# Altium integrated library DDSintLib.IntLib: 161 symbols (part 1 of 2)
Pins are listed as number, name and electrical type; pins without a type are passive.

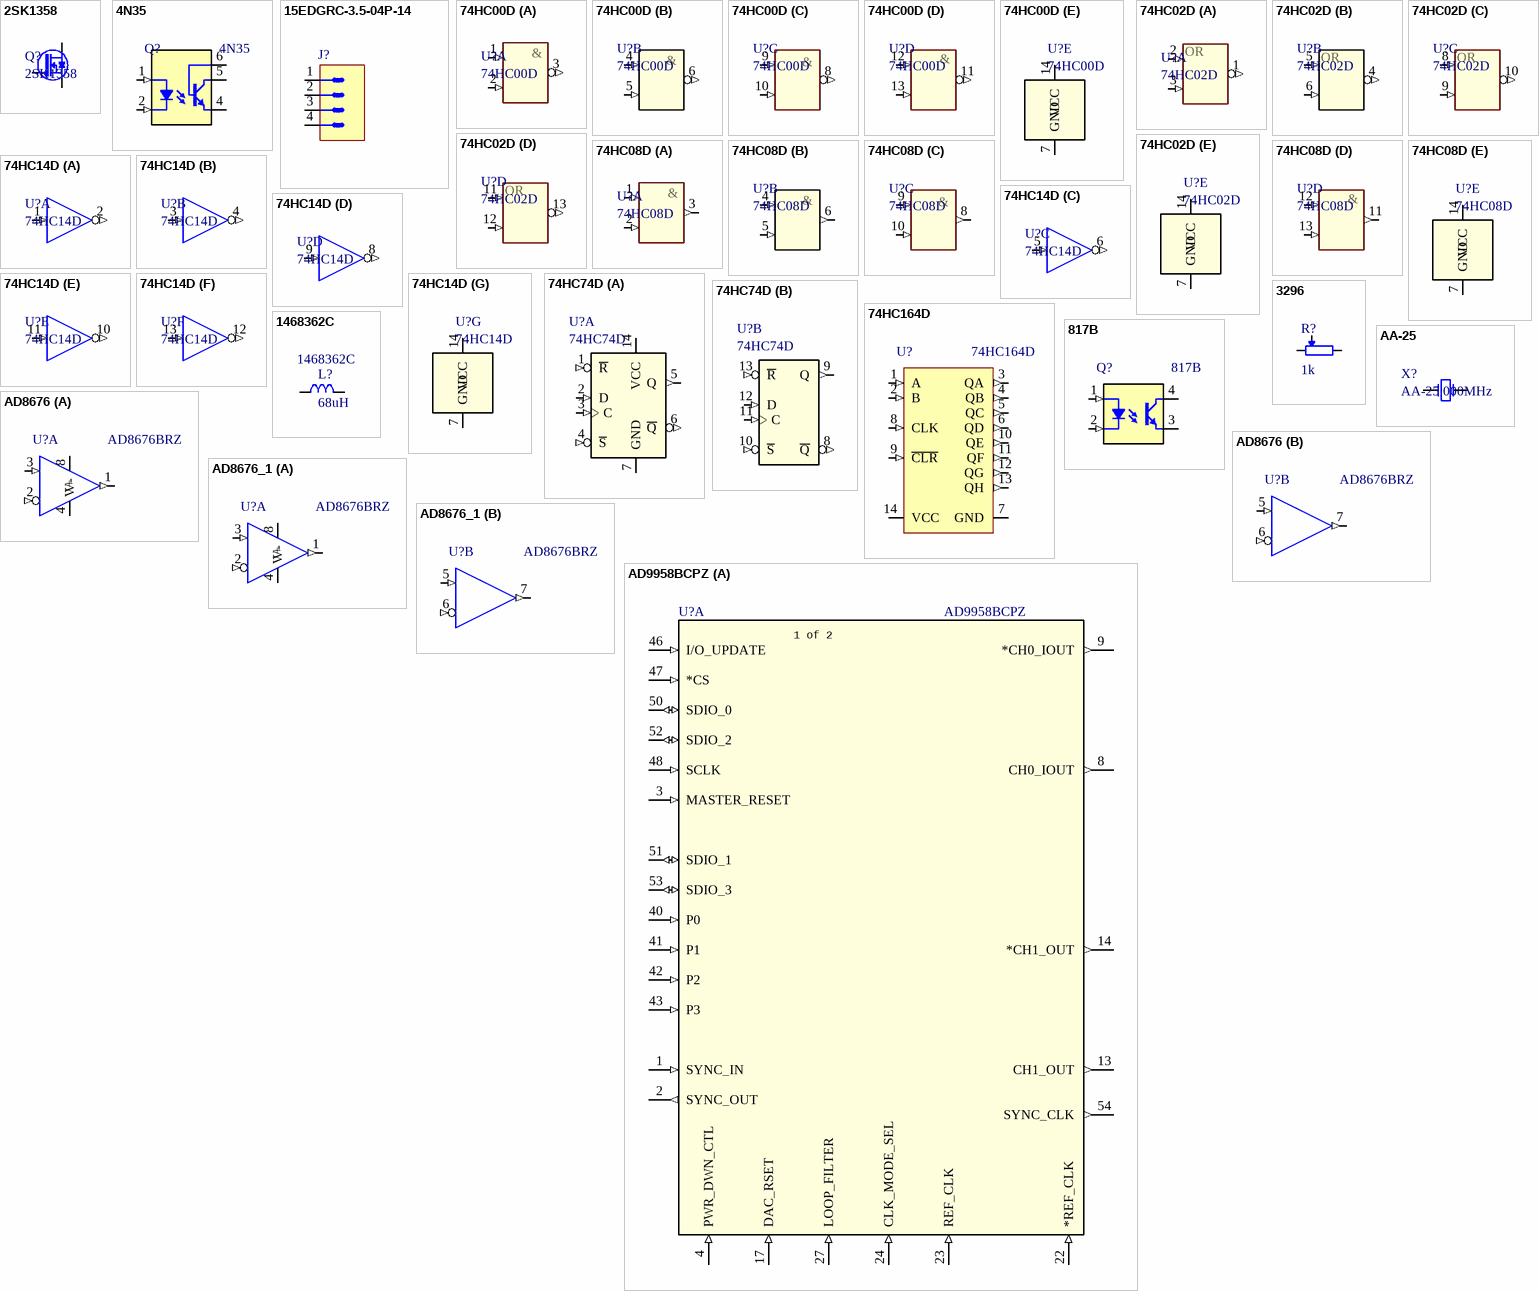
[diagram p0: symbols 2SK1358 to AD9958BCPZ]

## 2SK1358
designator Q?
NMOS; Vendor: Inchange; Pkg: TO247; SMD Solders: 0; Solder Option: RM; THD Solders: 3; Voltage: 900V; Price: 500; Device: 2SK1358; Name to order: 2SK1358
footprint TO-247-v (TO-247 3-Terminal - Vertical Mount)
pins: 1 G, 2 D, 3 S

## 4N35
designator Q?
Optotransistor; Pkg: DIP6; SMD Solders: 0; Solder Option: RM; THD Solders: 6; Vendor: Vishay; Voltage: 70V; Device: 4N35; Price: 75; Name to order: 4N35; Current: 0
footprint DIP6-300 (DIP 6 Leads, Row Spacing 7.62 mm; Pitch 2.54 mm)
pins: 1 A (in), 2 C (in), 4 E (oe), 5 C (oc), 6 C (oc)
1 alternate drawing of the same symbol

## 15EDGRC-3.5-04P-14
designator J?
Вилка  WF4; Vendor: Degson; SMD Solders: 0; Solder Option: RM; THD Solders: 4; Price: 50; Device: 15EDGRC-3.5-04P-14; Name to order: 15EDGRC-3.5-04P-14
footprint TE_284512-4
pins: 1 (io), 2 (io), 3 (io), 4 (io)

## 74HC00D
designator U?
4 лог. элемента 2И-НЕ; Vendor: NXP; Pkg: SOIC14; SMD Solders: 14; Solder Option: RM; Voltage: 2.. 6V; Price: 50; Device: 74HC00D; Name to order: 74HC00D
footprint SOIC127P600X175-14N (SOIC 14, Pitch 1.27mm - Body 4x8.75mm, IPC Medium Density)
part A pins: 1 IN (in), 2 IN (in), 3 OUT (out)
part B pins: 4 IN (in), 5 IN (in), 6 OUT (out)
part C pins: 8 OUT (out), 9 IN (in), 10 IN (in)
part D pins: 11 OUT (out), 12 IN (in), 13 IN (in)
part E pins: 7 GND (power) "Ground", 14 VCC (power) "Data"
part A text: &
part B text: &
part C text: &
part D text: &

## 74HC02D
designator U?
4 лог. элемента 2ИЛИ-НЕ; Vendor: NXP; Pkg: SOIC14; SMD Solders: 14; Solder Option: RM; Voltage: 2.. 6V; Price: 50; Device: 74HC02D; Name to order: 74HC02D
footprint SOIC127P600X175-14N (SOIC 14, Pitch 1.27mm - Body 4x8.75mm, IPC Medium Density)
part A pins: 1 OUT (out), 2 IN (in), 3 IN (in)
part B pins: 4 OUT (out), 5 IN (in), 6 IN (in)
part C pins: 8 IN (in), 9 IN (in), 10 OUT (out)
part D pins: 11 IN (in), 12 IN (in), 13 OUT (out)
part E pins: 7 GND (power) "Ground", 14 VCC (power) "Data"
part A text: OR
part B text: OR
part C text: OR
part D text: OR

## 74HC08D
designator U?
4 лог. элемента 2И; Vendor: NXP; Pkg: SOIC14; SMD Solders: 14; Solder Option: RM; Current: 2uA; Voltage: 2.. 6V; Price: 50; Device: 74HC08D; Name to order: 74HC08D
footprint SOIC127P600X175-14N (SOIC 14, Pitch 1.27mm - Body 4x8.75mm, IPC Medium Density)
part A pins: 1 IN (in), 2 IN (in), 3 OUT (out)
part B pins: 4 IN (in), 5 IN (in), 6 OUT (out)
part C pins: 8 OUT (out), 9 IN (in), 10 IN (in)
part D pins: 11 OUT (out), 12 IN (in), 13 IN (in)
part E pins: 7 GND (power) "Ground", 14 VCC (power) "Data"
part A text: &
part B text: &
part C text: &
part D text: &

## 74HC14D
designator U?
6 триггеров Шмита с инверсией.; Vendor: NXP; Pkg: SOIC14; SMD Solders: 14; Solder Option: RM; Voltage: 2.. 6V; Price: 50; Device: 74HC14D; Name to order: 74HC14D
footprint SOIC127P600X175-14N (SOIC 14, Pitch 1.27mm - Body 4x8.75mm, IPC Medium Density)
part A pins: 1 IN (in), 2 OUT (out)
part B pins: 3 IN (in), 4 OUT (out)
part C pins: 5 IN (in), 6 OUT (out)
part D pins: 8 OUT (out), 9 IN (in)
part E pins: 10 OUT (out), 11 IN (in)
part F pins: 12 OUT (out), 13 IN (in)
part G pins: 7 GND (power) "Ground", 14 VCC (power) "Data"

## 74HC74D
designator U?
2 D триггера с RS  вхлдами; Vendor: NXP; Pkg: SOIC14; SMD Solders: 14; Solder Option: RM; Voltage: 2.. 6V; Price: 50; Device: 74HC74D; Name to order: 74HC74D
footprint SOIC127P600X175-14N (SOIC 14, Pitch 1.27mm - Body 4x8.75mm, IPC Medium Density)
part A pins: 1 ~{R} (in) "Reset", 2 D (in) "Data", 3 C (in) "Clock", 4 ~{S} (in) "Set", 5 Q (out), 6 ~{Q} (out) "Q", 7 GND (power) "Ground", 14 VCC (power) "Data"
part B pins: 8 ~{Q} (out) "Q", 9 Q (out), 10 ~{S} (in) "Set", 11 C (in) "Clock", 12 D (in) "Data", 13 ~{R} (in) "Reset"

## 74HC164D
designator U?
Сдвиговый регистр. Посл. вх. 8 разр. выход.; Pkg: SOIC14; SMD Solders: 14; Solder Option: RM; THD Solders: 0; Vendor: NXP; Voltage: 2V0.. 6V0; Device: 74HC164D; Price: 30; Name to order: 74HC164D
footprint SOIC127P600X175-14N (SOIC 14, Pitch 1.27mm - Body 4x8.75mm, IPC Medium Density)
pins: 1 A (in), 2 B (in), 3 QA (out), 4 QB (out), 5 QC (out), 6 QD (out), 7 GND (power), 8 CLK (in), 9 ~{CLR} (in), 10 QE (out), 11 QF (out), 12 QG (out), 13 QH (out), 14 VCC (power)

## 817B
designator Q?
Optotransistor; Pkg: DIP4; SMD Solders: 0; Solder Option: RM; THD Solders: 4; Vendor: UMW; Voltage: 35V; Device: 817B; Price: 10; Name to order: 817B; Current: 0
footprint DIP4-300 (DIP 4 Leads, Row Spacing 7.62 mm; Pitch 2.54 mm)
pins: 1 A (in), 2 C (in), 3 E (oe), 4 C (oc)

## 3296
designator R?, comment 1k
Trimmer Potentiometer; Vendor: Bourns; SMD Solders: 0; Solder Option: RM; TC: 100ppm/C; Pkg: Bourns3296; Pwr: 250mW; Device: 3296Y; THD Solders: 3; Price: 200; Value: 1k
footprint TRIM_BOURNS_3296Y (Trimming Potentiometer BOURNS 3296Y Series)
pins: 1, 2 W, 3

## 1468362С
designator L?, comment 68uH  Device: 1468362С
THD inductor; Vendor: muRata; SMD Solders: 0; Solder Option: RM; Tolerance: 20%; THD Solders: 2; Price: 600; Value: 68uH
footprint muR1468362C (Capacitor, Radial, Pin spacing 5.0mm - Body Diameter 10.0mm X Body Height 12.5mm)
pins: 1, 2

## AA-25
designator X?, comment AA-25.000MHz
Резонатор кварцевый; Vendor: TXS; Pkg: 5x3,2; SMD Solders: 2; Solder Option: RM; Device: AA-; THD Solders: 0; Name to order: AA-25.000MALE-T; Value: 25.000MHz; Price: 300; Current: 0
footprint XTAL_AA (Resonator 5x3.mm 2pin)
pins: 1 OSC1, 2 OSC2

## AD8676
designator U?, comment AD8676BRZ
Dual Rail-to-Rail Output Op Amp; Pkg: SOIC8_EP; SMD Solders: 8; Solder Option: RM; TC: 600nV/C; THD Solders: 0; Vendor: Analog Devices Inc; Voltage: +-5 to +-18V; Device: AD8676BRZ; Price: 3000; Name to order: AD8676BRZ; Current: 8
footprint SOIC127P600X175-8N (SOIC 8, Pitch 1.27mm - Body 4x5mm, IPC Medium Density)
part A pins: 1 OUT (out), 2 IN- (in), 3 IN+ (in), 4 V- (power), 8 V+ (power)
part B pins: 5 IN+ (in), 6 IN- (in), 7 OUT (out)

## AD8676_1
designator U?, comment AD8676BRZ
Dual Rail-to-Rail Output Op Amp; Pkg: SOIC8_EP; SMD Solders: 8; Solder Option: RM; TC: 600nV/C; THD Solders: 0; Vendor: Analog Devices Inc; Voltage: +-5 to +-18V; Device: AD8676BRZ; Price: 3000; Name to order: AD8676BRZ; Current: 8
footprint SOIC127P600X175-8N (SOIC 8, Pitch 1.27mm - Body 4x5mm, IPC Medium Density)
part A pins: 1 OUT (out), 2 IN- (in), 3 IN+ (in), 4 V- (power), 8 V+ (power)
part B pins: 5 IN+ (in), 6 IN- (in), 7 OUT (out)

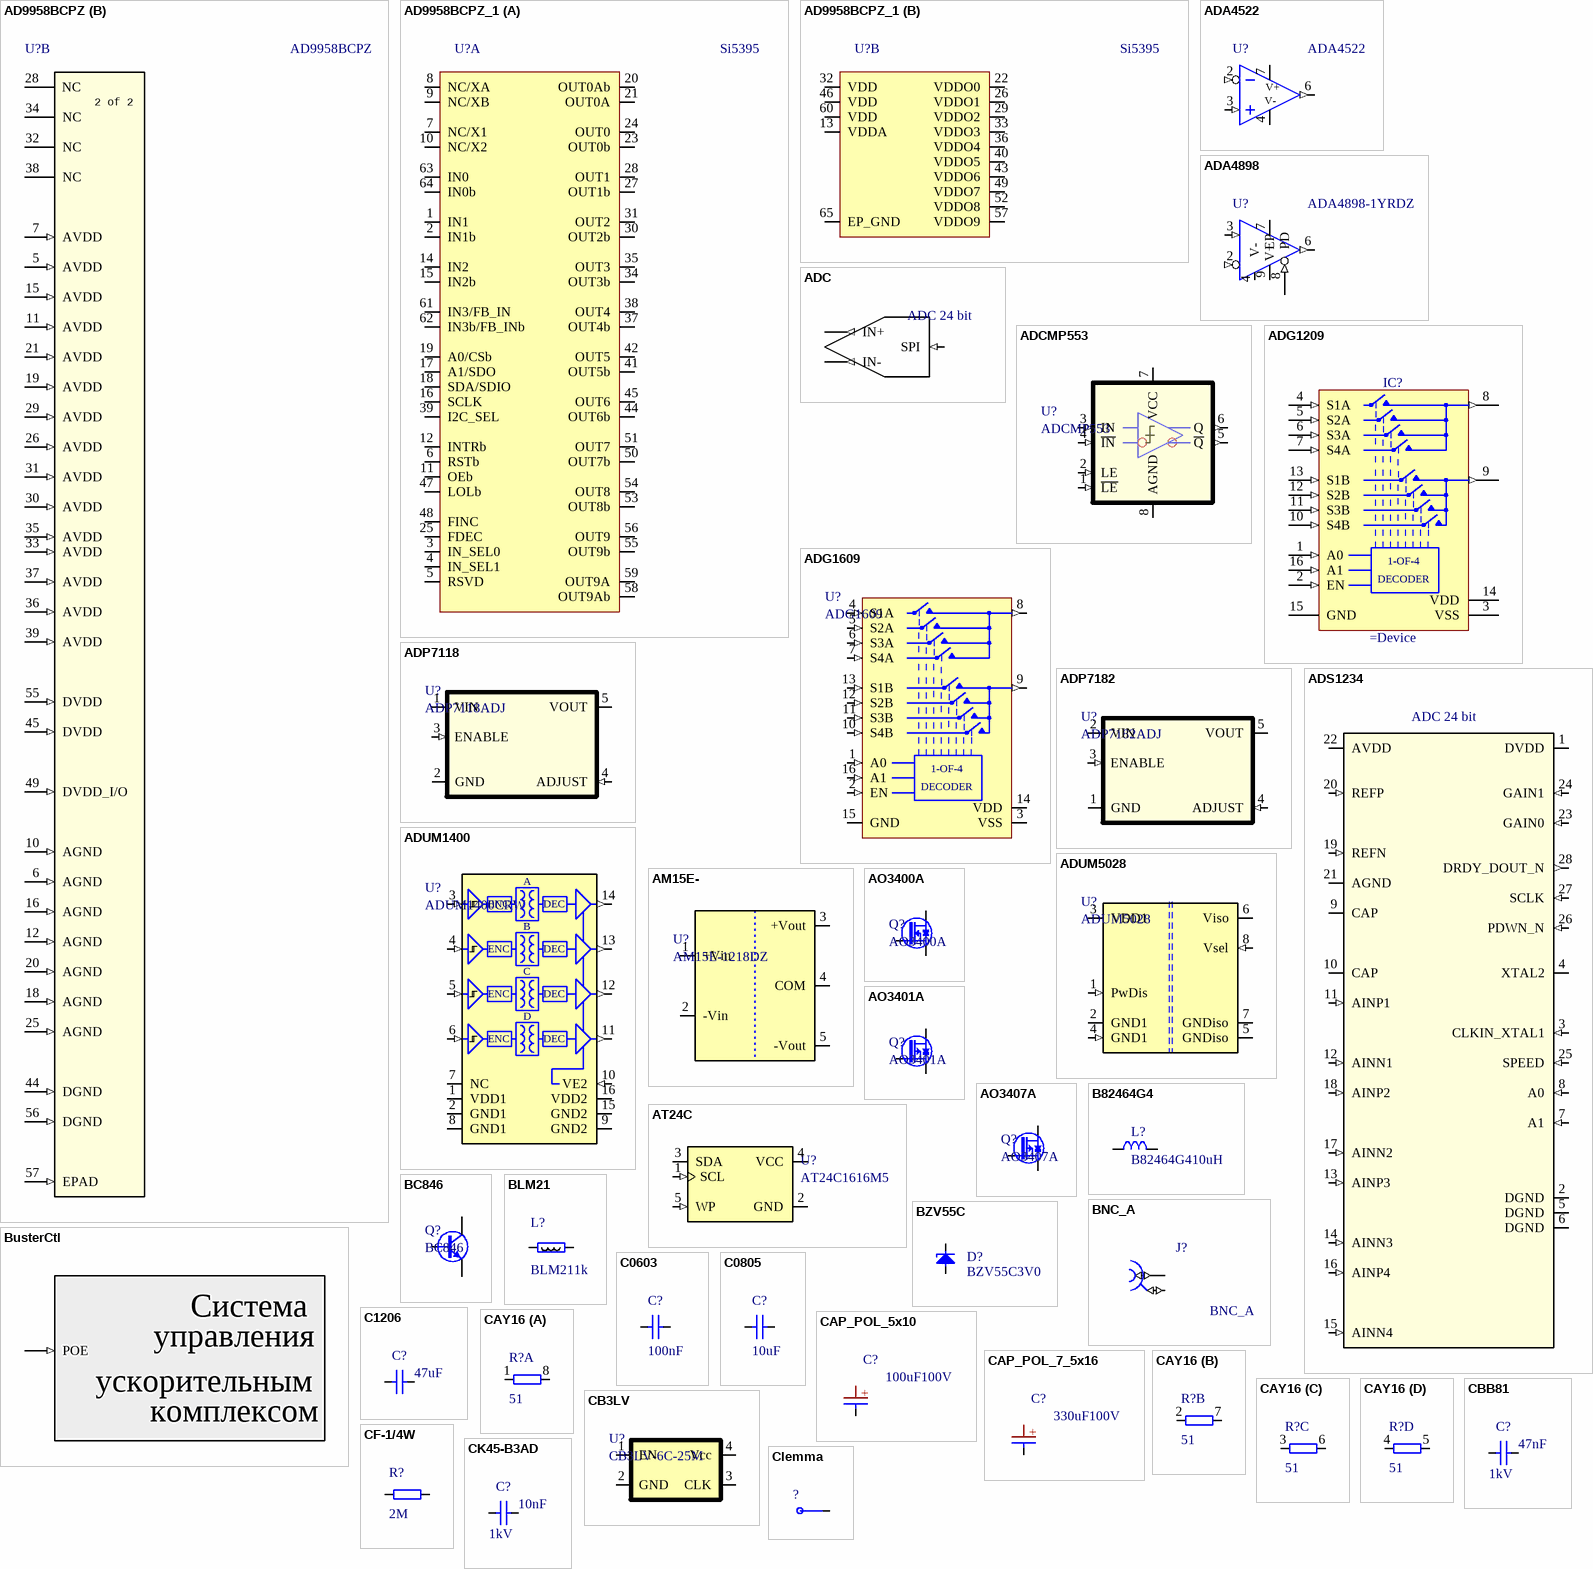
[diagram p1: symbols AD9958BCPZ to Clemma]

## AD9958BCPZ
designator U?
2х канальный   500 MSpS  DDS; Voltage: Core:1V8 IO:3V3; Vendor: Analog Devices Inc; SMD Solders: 57; Solder Option: i; TC: 100ppm/C; Pkg: LFCSP_VQ57; 1V8A_Current: 110; 1V8D_Current: 80; 3V3io_Current: 30; Price: 2500; Device: AD9958BCPZ
footprint CP_56_1_ADI-M
part A pins: 1 SYNC_IN (in), 2 SYNC_OUT (out), 3 MASTER_RESET (in), 4 PWR_DWN_CTL (in), 8 CH0_IOUT (out), 9 *CH0_IOUT (out), 13 CH1_OUT (out), 14 *CH1_OUT (out), 17 DAC_RSET (in), 22 *REF_CLK (in), 23 REF_CLK (in), 24 CLK_MODE_SEL (in), 27 LOOP_FILTER (in), 40 P0 (in), 41 P1 (in), 42 P2 (in), 43 P3 (in), 46 I/O_UPDATE (in), 47 *CS (in), 48 SCLK (in), 50 SDIO_0 (io), 51 SDIO_1 (io), 52 SDIO_2 (io), 53 SDIO_3 (io), 54 SYNC_CLK (out)
part B pins: 5 AVDD (in), 6 AGND (in), 7 AVDD (in), 10 AGND (in), 11 AVDD (in), 12 AGND (in), 15 AVDD (in), 16 AGND (in), 18 AGND (in), 19 AVDD (in), 20 AGND (in), 21 AVDD (in), 25 AGND (in), 26 AVDD (in), 28 NC, 29 AVDD (in), 30 AVDD (in), 31 AVDD (in), 32 NC, 33 AVDD (in), 34 NC, 35 AVDD (in), 36 AVDD (in), 37 AVDD (in), 38 NC, 39 AVDD (in), 44 DGND (in), 45 DVDD (in), 49 DVDD_I/O (in), 55 DVDD (in), 56 DGND (in), 57 EPAD (in) "Thermopad connect to AGND"
part A text: 1 of 2
part B text: 2 of 2

## AD9958BCPZ_1
designator U?, comment Si5395
Jitter Attenuator/Clock Multiplier with Ultra-Low Jitter; Voltage: 1V8 3V3; Vendor: SiLabs; SMD Solders: 57; Solder Option: i; TC: 100ppm/C; Pkg: LFCSP_VQ57; 1V8A_Current: 110; 1V8D_Current: 80; 3V3io_Current: 30; Price: 2500; Device: Si5395
footprint QFN50P900X900X100-65N-S530
part A pins: 1 IN1, 2 IN1b, 3 IN_SEL0, 4 IN_SEL1, 5 RSVD, 6 RSTb, 7 NC/X1, 8 NC/XA, 9 NC/XB, 10 NC/X2, 11 OEb, 12 INTRb, 14 IN2, 15 IN2b, 16 SCLK, 17 A1/SDO, 18 SDA/SDIO, 19 A0/CSb, 20 OUT0Ab, 21 OUT0A, 23 OUT0b, 24 OUT0, 25 FDEC, 27 OUT1b, 28 OUT1, 30 OUT2b, 31 OUT2, 34 OUT3b, 35 OUT3, 37 OUT4b, 38 OUT4, 39 I2C_SEL, 41 OUT5b, 42 OUT5, 44 OUT6b, 45 OUT6, 47 LOLb, 48 FINC, 50 OUT7b, 51 OUT7, 53 OUT8b, 54 OUT8, 55 OUT9b, 56 OUT9, 58 OUT9Ab, 59 OUT9A, 61 IN3/FB_IN, 62 IN3b/FB_INb, 63 IN0, 64 IN0b
part B pins: 13 VDDA, 22 VDDO0, 26 VDDO1, 29 VDDO2, 32 VDD, 33 VDDO3, 36 VDDO4, 40 VDDO5, 43 VDDO6, 46 VDD, 49 VDDO7, 52 VDDO8, 57 VDDO9, 60 VDD, 65 EP_GND

## ADA4522
designator U?
Op amp; Pkg: MASOP8-65; SMD Solders: 8; Solder Option: RM; TC: 1uV/C; Vendor: Analog Devices Inc; Voltage: +-5 to +-27.5V; Name to order: ADA4522-1ARMZ; Current: 1; Device: ADA4522; Price: 600
footprint SOP65P488X110-8N (SOP, 8-Leads, Body 3x3mm (max), Pitch 0.65mm, IPC Medium Density)
pins: 2 IN- (in), 3 IN+ (in), 4 V- (power), 6 OUT (out), 7 V+ (power)

## ADA4898
designator U?, comment ADA4898-1YRDZ
Op amp; Pkg: SOIC8_EP; SMD Solders: 9; Solder Option: i; TC: 1uV/C; Vendor: Analog Devices Inc; Voltage: +-5 to +-16V; Device: ADA4898-1YRDZ; Price: 1000; Name to order: ADA4898-1YRDZ; Current: 9
footprint SOIC8_TP (SOIC8_1.27pitch + expPad)
pins: 2 IN- (in), 3 IN+ (in), 4   V- (power), 6 OUT (out), 7 V+, 8 PD (in) "To PowDown connect to -VS", 9   EP (power) "Connect to -VS of left floated"

## ADC
designator U?, comment ADC 24 bit
АЦП; Device: AD8676BRZ; Pkg: SOIC8_EP; SMD Solders: 8; Solder Option: RM; TC: 600nV/C; THD Solders: 0; Vendor: Analog Devices Inc; Voltage: +-5 to +-18V; Price: 3000; Name to order: AD8676BRZ; Current: 8
footprint SOIC127P600X175-8N (SOIC 8, Pitch 1.27mm - Body 4x5mm, IPC Medium Density)
pins: 1 IN+ (out), 2 IN- (out), 3 SPI (in)

## ADCMP553
designator U?
Comparator PECL/LVPECL; Vendor: Analog Devices; Pkg: MSOP8-65; SMD Solders: 8; Solder Option: RM; THD Solders: 0; Name to order: ADCMP553BRMZ; Current: 13; Voltage: 3.2.. 5.2; Price: 1000; Device: ADCMP553
footprint MSOP8-65 (SOP, 8-Leads, Body 3x3mm (max), Pitch 0.65mm, IPC Medium Density)
pins: 1 ~{LE} (in), 2 LE (in), 3 IN (in), 4 ~{IN} (in), 5 ~{Q} (out), 6 Q (out), 7 VCC (power), 8 AGND (power)
1 alternate drawing of the same symbol

## ADG1209
designator IC?
Low Capacitance, Dual 4-Channel, ±15 V/+12 V iCMOS Multiplexer
pins: 1 A0 (in), 2 EN (in), 3 VSS (power), 4 S1A (in), 5 S2A (in), 6 S3A (in), 7 S4A (in), 8 DA (out), 9 DB (out), 10 S4B (in), 11 S3B (in), 12 S2B (in), 13 S1B (in), 14 VDD (power), 15 GND (power), 16 A1 (in)
text: 1-OF-4; DECODER

## ADG1609
designator U?
Мультиплексор аналоговый дифференциальный 4 канала; Vendor: Analog Devoces; Pkg: TSSOP65-16; SMD Solders: 16; Solder Option: RM; THD Solders: 0; Name to order: ADG1608BRUZ; Price: 700; Device: ADG1609; Current: 0
footprint TSSOP-16
pins: 1 A0 (in), 2 EN (in), 3 VSS (power), 4 S1A (in), 5 S2A (in), 6 S3A (in), 7 S4A (in), 8 DA (out), 9 DB (out), 10 S4B (in), 11 S3B (in), 12 S2B (in), 13 S1B (in), 14 VDD (power), 15 GND (power), 16 A1 (in)
text: 1-OF-4; DECODER

## ADP7118
designator U?, comment ADP7118ADJ
Positive LDO Linear stabilizer; Vendor: Analog Devoces; Value: ADJ; Pkg: SOT23-5; SMD Solders: 5; Solder Option: RM; Price: 100; Device: ADP7118
footprint SOT23-5 (SOT, 0.95mm Pitch; 5 Pin,1.55mm W X 2.90mm L X 1.45mm H body, IPC Medium Density)
pins: 1 VIN (power) "Vin 2.1,,16V", 2 GND (power) "Groung", 3 ENABLE (in) "Enable  activ H", 4 ADJUST (in), 5 VOUT (power) "Vout"

## ADP7182
designator U?, comment ADP7182ADJ
Negative LDO Linear stabilizer; Vendor: Analog Devoces; Value: ADJ; Pkg: SOT23-5; SMD Solders: 5; Solder Option: RM; Name to order: ADP7182AUJZ-R7; Vref: 1V22; Price: 100; Device: ADP7182
footprint SOT23-5 (SOT, 0.95mm Pitch; 5 Pin,1.55mm W X 2.90mm L X 1.45mm H body, IPC Medium Density)
pins: 1 GND (power) "Groung", 2 VIN (power) "Vin 2.1,,16V", 3 ENABLE (in) "Enable  activ H", 4 ADJUST (in), 5 VOUT (power) "Vout"

## ADS1234
designator U?, comment ADC 24 bit
АЦП; Device: ADS1234; Pkg: SOIC8_EP; SMD Solders: 28; Solder Option: RM; TC: 10-300nV/C; THD Solders: 0; Vendor: Texas  Instruments; Voltage: 2V7 to 5V3; Name to order: ADS1234IPWR; Current: 3; Price: 1500
footprint SOP65P780X200-28N (SOP, 0.65mm Pitch; 28 Pin, 5.30mm W X 10.20mm L X 2.00mm H Body, IPC Medium Density)
pins: 1 DVDD (power), 2 DGND (power), 3 CLKIN_XTAL1 (in), 4 XTAL2, 5 DGND (power), 6 DGND (power), 7 A1 (in), 8 A0 (in), 9 CAP, 10 CAP, 11 AINP1 (in), 12 AINN1 (in), 13 AINP3 (in), 14 AINN3 (in), 15 AINN4 (in), 16 AINP4 (in), 17 AINN2 (in), 18 AINP2 (in), 19 REFN (in), 20 REFP (in), 21 AGND (power), 22 AVDD (power), 23 GAIN0 (in), 24 GAIN1 (in), 25 SPEED (in), 26 PDWN_N (in), 27 SCLK (in), 28 DRDY_DOUT_N (out)

## ADUM1400
designator U?, comment ADUM1400CRW
Isolateted DC DC 5V->5V or 3V3 60mA; Vendor: Analog Devoces; Value: CRW; Pkg: SOIC16W; SMD Solders: 16; Solder Option: RM; THD Solders: 0; Current: 200; Price: 960; Device: ADUM1400; Name to order: ADuM1400CRW
footprint SOIC127P1030X265-16N (SOIC 16, Pitch 1.27mm - Body 7.5x10.3mm, IPC Medium Density)
pins: 1 VDD1 (power), 2 GND1 (power), 3 VIA (in), 4 VIB (in), 5 VIC (in), 6 VID (in), 7 NC, 8 GND1 (power), 9 GND2 (power), 10 VE2 (in), 11 VOD (out), 12 VOC (out), 13 VOB (out), 14 VOA (out), 15 GND2 (power), 16 VDD2 (power)
text: A; ENC; DEC; B; C; D

## ADUM5028
designator U?
Isolateted DC DC 5V->5V or 3V3 60mA; Vendor: Analog Devoces; Pkg: SOIC8; SMD Solders: 8; Solder Option: RM; Name to order: ADuM5028-5BRIZ; Current: 200; Price: 2500; Device: ADUM5028
footprint SOIC127P600X175-8N (SOIC 8, Pitch 1.27mm - Body 4x5mm, IPC Medium Density)
pins: 1 PwDis (in), 2 GND1 (power), 3 VDD1 (power), 4 GND1 (in), 5 GNDiso (power), 6 Viso (power), 7 GNDiso (power), 8 Vsel (in)

## AM15E-
designator U?, comment AM15E-1218DZ
DC-DC+&-Halvoisolated out; Vendor: Aimtec; Value: 1218DZ; Pkg: DCDC_5; SMD Solders: 0; Solder Option: RM; Device: AM15E-; THD Solders: 5; Name to order: AM15-1218DZ; Price: 2000
footprint DCDC_Aimtec_Dual (AEE 15W Series , Dual Output DCDC Converter, Body 50.8x25.4mm, Height 11.3mm)
pins: 1 +Vin (power), 2 -Vin (power), 3 +Vout (power), 4 COM (power), 5 -Vout (power)

## AO3400A
designator Q?
NMOS; Vendor: UMW; Pkg: SOT23; SMD Solders: 3; Solder Option: RM; Voltage: 30V; Price: 10; Device: AO3400A; Name to order: AO3400A
footprint SOT95P229X119-3N (SOT23 3-Leads, 0.95mm pitch; 3 pin, 1.296mm W X 2.858mm L X 1.194mm H body, IPC Medium Density)
pins: 1 G, 2 S, 3 D

## AO3401A
designator Q?
PMOS; Vendor: UMW; Pkg: SOT23; SMD Solders: 3; Solder Option: RM; THD Solders: 0; Voltage: -30V; Price: 10; Device: AO3401A; Name to order: AO3401A
footprint SOT95P229X119-3N (SOT23 3-Leads, 0.95mm pitch; 3 pin, 1.296mm W X 2.858mm L X 1.194mm H body, IPC Medium Density)
pins: 1 G, 2 S, 3 D

## AO3407A
designator Q?
PMOS; Vendor: UMW; Pkg: SOT23; SMD Solders: 3; Solder Option: RM; THD Solders: 0; Voltage: -30V; Price: 10; Device: AO3407A; Name to order: AO3407A
footprint SOT95P229X119-3N (SOT23 3-Leads, 0.95mm pitch; 3 pin, 1.296mm W X 2.858mm L X 1.194mm H body, IPC Medium Density)
pins: 1 G, 2 S, 3 D

## AT24C
designator U?, comment AT24C1616M5
Isolateted DC DC 5V->5V or 3V3 60mA; Vendor: HGSemi; Value: 16M5; Pkg: SOT23-5; SMD Solders: 5; Solder Option: RM; THD Solders: 0; Name to order: AT24C16M5/TR; Current: 2uA/2mA; Price: 20; Device: AT24C16
footprint SOT23-5 (SOT, 0.95mm Pitch; 5 Pin,1.55mm W X 2.90mm L X 1.45mm H body, IPC Medium Density)
pins: 1 SCL (in), 2 GND (power), 3 SDA (io), 4 VCC (power), 5 WP (in)

## B82464G4
designator L?, comment B82464G410uH
SMD Дроссель; Vendor: Epcos; Value: 10uH; Voltage: 2; Solder Option: RM; Tolerance: 20%; Pkg: SMD10.4x10.4mm; THD Solders: 0; Name to order: B82464G4103M; Current: 3A5; Price: 400; SMD Solders: 2; Device: B82464G4
footprint IND_COILCRAFT_MSS1038 (SMD Inductor  Body Width 10mm Body Lenght 10.2mm Height 4mm)
pins: 1, 2

## BC846
designator Q?
NPN транзистор; Vendor: NXP; Pkg: SOT23; SMD Solders: 3; Solder Option: RM; Voltage: 65V; Price: 10; Device: BC846; Name to order: BC846
footprint SOT95P229X119-3N (SOT23 3-Leads, 0.95mm pitch; 3 pin, 1.296mm W X 2.858mm L X 1.194mm H body, IPC Medium Density)
pins: 1 B, 2 E, 3 C

## BLM21
designator L?, comment BLM211k
SMD Ferrite bead 0805; Vendor: Vishay; Value: 1k; Pkg: SMD0805; SMD Solders: 2; Solder Option: RM; Device: BLM21; Price: 10
footprint RESC2012X50N (Chip Resistor, EIA 0805, Metric 2012, Body 2.0x1.25mm, IPC Medium Density)
pins: 1, 2

## BNC_A
designator J?
BNC розетка; Vendor: TYCO; SMD Solders: 0; Solder Option: RM; Price: 500; Device: BNC_A
footprint TYCO_1-1337542-0 (50 Ohms  BNC Elbow PCB Socket With Mounting Posts)
pins: 1 (io), 2 (io)

## BusterCtl
designator U?, comment Eghfdktybt  (value not drawn)
Система управления измерительным комплексом
pins: 3 POE (in)
text: Система; управления; ускорительным; комплексом

## BZV55C
designator D?, comment BZV55C3V0
Чип cтабилитрон; Vendor: LGE; Value: 3V0; Voltage: 3V; SMD Solders: 2; Solder Option: RM; Pkg: SOD80; Device: BZV55C; Current: 5; Price: 5; Name to order: BZV55C3V0
footprint DIOMELF3516N (SOD80, Diode, MELF; 3.50mm L X 1.65mm Dia, IPC Medium Density)
pins: 1 C, 2 A

## C0603
designator C?, comment 100nF
Чип конденсатор 0603; Voltage: 50V; Vendor: Vishay; DielectricType: X5R; SMD Solders: 2; Solder Option: RM; Tolerance: 20%; Pkg: SMD0603; Device: Cap603; Value: 100nF; Price: 2
footprint CAPC1608X87N (Chip Capacitor, Body 1.6x0.8mm IPC Medium Density)
pins: 1, 2

## C0805
designator C?, comment 10uF
Чип конденсатор 0805; Voltage: 25V; Vendor: Vishay; DielectricType: X5R; SMD Solders: 2; Solder Option: RM; Tolerance: 20%; Pkg: SMD0805; Device: Cap0805; Value: 10uF; Price: 2
footprint SMD0805CAP (Чипконденсатор, 2.0x1.3mm)
pins: 1, 2

## C1206
designator C?, comment 47uF
Чип конденсатор 1206; Voltage: 16V; Vendor: Vishay; DielectricType: X5R; SMD Solders: 2; Solder Option: RM; Tolerance: 1%; Pkg: SMD1206; Device: Cap1206; Value: 47uF; Price: 2
footprint CAPC1206 (Chip Capacitor, Body 3.2x1.6mm, IPC Medium Density)
pins: 1, 2

## CAP_POL_5x10
designator C?, comment 100uF100V
Конденсатор полярный d10 p5мм; Voltage: 100V; Vendor: Vishay; Value: 100uF; SMD Solders: 0; Solder Option: RM; Tolerance: 20%; Pkg: 5x10mm; Device: Cap+; THD Solders: 2; Price: 20
footprint CAPPR500-1000X1250 (Capacitor, Radial, Pin spacing 5.0mm - Body Diameter 10.0mm X Body Height 12.5mm)
pins: 1 +, 2 "-"

## CAP_POL_7_5x16
designator C?, comment 330uF100V
Конденсатор полярный d16 p7.5мм; Voltage: 100V; Vendor: Vishay; Value: 330uF; SMD Solders: 0; Solder Option: RM; Tolerance: 20%; Pkg: 7.5x16mm; Device: Cap+; THD Solders: 2; Price: 30
footprint CAPPR750-1600X2000 (Capacitor, Radial, Pin spacing 7.5mm - Body Diameter 16.0mm X Body  Height 20.0mm)
pins: 1 +, 2 "-"

## CAY16
designator R?, comment 51
Сборка из 4х чип резисторов; Vendor: Bourns; SMD Solders: 8; Solder Option: RM; TC: 200ppm/C; Tolerance: 5%; Pkg: so8-80; Pwr: 60mW; Device: CAY16; THD Solders: 0; Name to order: CAY16-510j4  or CAY16-510F4; Price: 2; Value: 51
footprint CAY16x4 (Capacitor, Non-Polarized,Chip Array, 0.80mm Pitch; 8 Pin, 1.6mm W X 3.20mm L X 0.90mm H, IPC Medium Density)
part A pins: 1, 8
part B pins: 2, 7
part C pins: 3, 6
part D pins: 4, 5

## CB3LV
designator U?, comment CB3LV-6C-25M
Clock generator; Vendor: CTS Electronic Components; Pkg: 7x5mm; SMD Solders: 4; Solder Option: RM; Device: CB3LV; THD Solders: 0; Current: 60; Value: -6C-25M; Price: 1000; Name to order: CB3LV-6C-25M
footprint OSCSC508P500X700X160-4N (SMD Oscillator, side convave, 4 pins, 5.00x7.00mm)
pins: 1 EN, 2 GND, 3 CLK, 4 Vcc

## CBB81
designator C?, comment 47nF  Voltage: 1kV
HV THD capacitor; Vendor: Neon; SMD Solders: 0; Solder Option: RM; Tolerance: +-10%; Pkg: 15mm; Device: CBB81; Value: 47nF; Price: 50
footprint CAPR2750-900X3150X1900 (Capacitor Radial, Pin spacing 27.5mm - Body Width 9mm X Body Length 31.5mm X Body Height 19mm)
pins: 1, 2

## CF-1/4W
designator R?, comment 2M
250mW THD resistor; Vendor: CCO; SMD Solders: 0; Solder Option: RM; TC: 100ppm/C; Tolerance: 1%; Pkg: RES1016-360X210; Device: CF-1/4W; THD Solders: 2; Price: 2; Value: 2M; Pwr: 250mW
footprint RES1016-360X210 (Resistor, Axial, Pad spacing 10.16 mm - Body Lengh 3.6mm X Body Diameter 2.1mm)
pins: 1, 2

## CK45-B3AD
designator C?, comment 10nF  Voltage: 1kV
HV THD capacitor; Vendor: TDK; SMD Solders: 0; Solder Option: RM; Tolerance: +-10%; Pkg: 15mm; Device: CK45-E3AD; Value: 10nF; Price: 50
footprint CAPR1500-900X1800X1750 (Capacitor Radial, Pin spacing 15.0mm - Body Width 9mm X Body Length 18mm X Body Height 17.5mm)
pins: 1, 2

## Clemma
designator ?, comment X  (value not drawn)
Управляемый источник напряжения; Vendor: Inchange; Pkg: TO247; SMD Solders: 0; Solder Option: RM; Device: 2SK1358; THD Solders: 3; Voltage: 900V; Price: 500; Name to order: 2SK1358; Value: X
footprint CAPC1206
pins: 1 minus

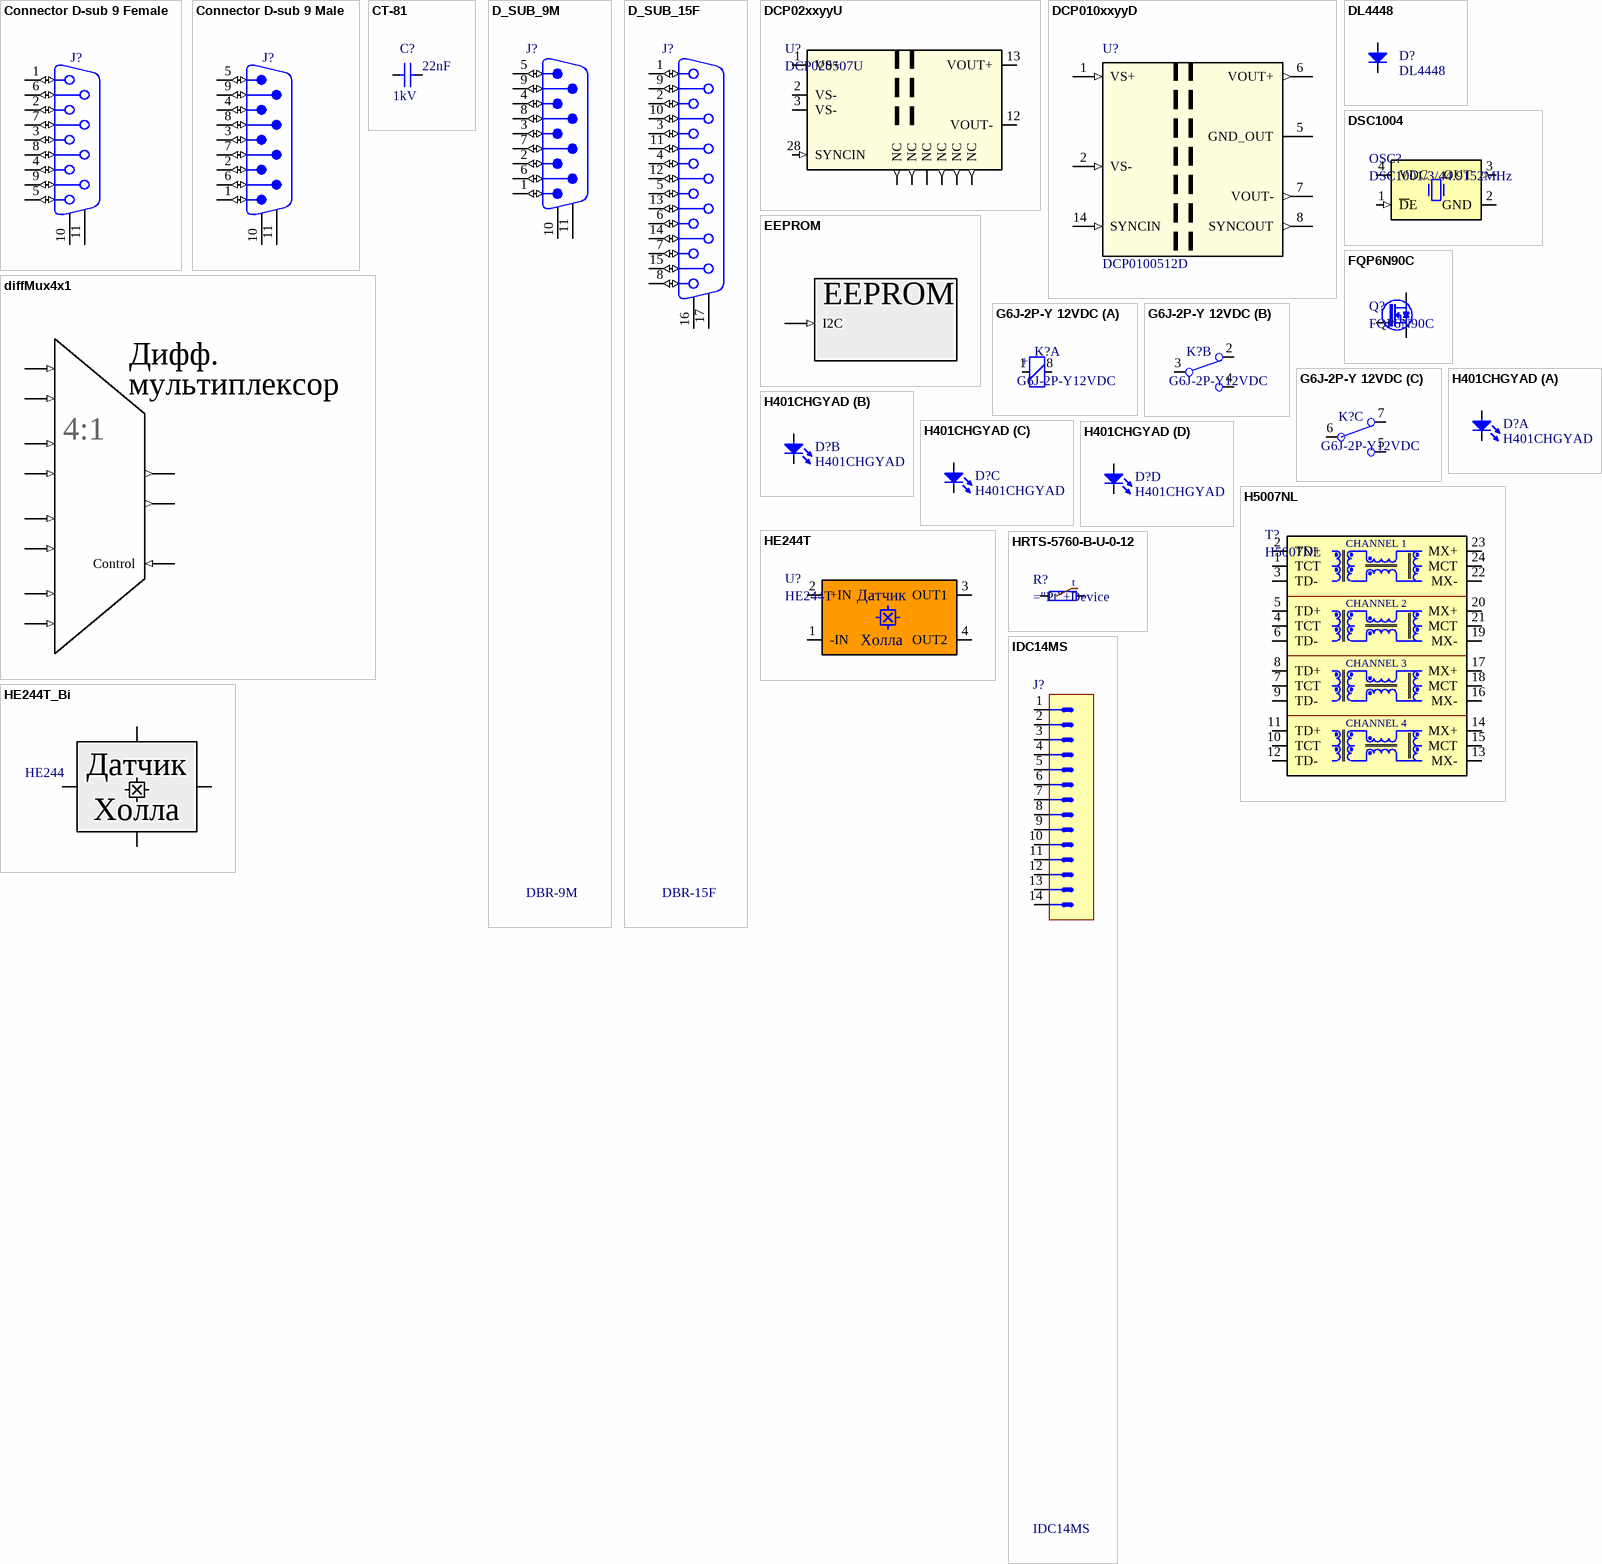
[diagram p2: symbols Connector D-sub 9 Female to IDC14MS]

## Connector D-sub 9 Female
designator J?
Connector D-sub 9 Female
pins: 1 (io), 2 (io), 3 (io), 4 (io), 5 (io), 6 (io), 7 (io), 8 (io), 9 (io), 10, 11
1 alternate drawing of the same symbol

## Connector D-sub 9 Male
designator J?
Connector D-sub 9 Male
pins: 1 (io), 2 (io), 3 (io), 4 (io), 5 (io), 6 (io), 7 (io), 8 (io), 9 (io), 10, 11
1 alternate drawing of the same symbol

## CT-81
designator C?, comment 22nF  Voltage: 1kV
HV THD capacitor; SMD Solders: 0; Solder Option: RM; Tolerance: +-10%; Pkg: 15mm; Device: CT81; Value: 22nF; Price: 50
footprint CAPR2250-900X2600X1850 (Capacitor Radial, Pin spacing 22.5mm - Body With 9mm X Body Length 26mm X Body Height 18.5mm)
pins: 1, 2

## D_SUB_9M
designator J?, comment DBR-9M
Вилка  DSUB 9 угловая; Vendor: Connfly; SMD Solders: 0; Solder Option: RM; THD Solders: 11; Name to order: DRB- 9MA (DBR-9M) (DS1037-9M); Price: 50; Device: DBR-9M
footprint AMPHENOL_L717DFE09P1ATN (Right Angled D-Sub 9 Male Contacts with Metal Bracket and Front Female Screwlock (UNC4-40))
pins: 1 (io), 2 (io), 3 (io), 4 (io), 5 (io), 6 (io), 7 (io), 8 (io), 9 (io), 10, 11

## D_SUB_15F
designator J?, comment DBR-15F
Вилка  DSUB 9 угловая; Vendor: Connfly; SMD Solders: 0; Solder Option: RM; THD Solders: 17; Name to order: DRB- 15MA (DBR-15F) (DS1037-15F); Price: 50; Device: DBR-15F
footprint AMPHENOL_L717DFA15S1ATN (Right Angled D-Sub 15 Female Contacts with Metal Bracket and Front Female Screwlock (UNC4-40))
pins: 1 (io), 2 (io), 3 (io), 4 (io), 5 (io), 6 (io), 7 (io), 8 (io), 9 (io), 10 (io), 11 (io), 12 (io), 13 (io), 14 (io), 15 (io), 16, 17

## DCP02xxyyU
designator U?, comment DCP020507U
DC/DC xxV to isolated  yyV; Vendor: Texas Instruments; Value: 0507U; Device: DCP02; Pkg: SOIC28; SMD Solders: 6; Solder Option: RM; Voltage: 7V; Copyright: Copyright (C) 2022 Ultra Librarian. All rights reserved.; Price: 1000
footprint SOIC127P1033X265-12_28N (SOIC, Pitch 1.27mm; 12 Pin of 28, 7.50mm W X 17.90mm L X 2.65mm H body, IPC Medium Density)
pins: 1 VS+ (power), 2 VS- (power), 3 VS- (power), 12 VOUT- (power), 13 VOUT+ (power), 14 NC (out), 15 NC (out), 16 NC, 17 NC (out), 26 NC (out), 27 NC (out), 28 SYNCIN (in)

## DCP010xxyyD
designator U?, comment DCP0100512D
DC/DC xxV to isolated +-yyV; Vendor: Texas Instruments; Value: 0512D; SMD Solders: 0; Solder Option: RM; Pkg: DIP14; Device: DCP010; Voltage: +12V & -12V; THD Solders: 10; Price: 1000
footprint NVA7
pins: 1 VS+ (in), 2 VS- (in), 5 GND_OUT (power) "Out GND", 6 VOUT+ (out), 7 VOUT- (out), 8 SYNCOUT (out), 14 SYNCIN (in)

## diffMux4x1
designator IC?
Low Capacitance, Dual 4-Channel, ±15 V/+12 V iCMOS Multiplexer
pins: 1 Control (in), 1 1A (in), 2 2A (in), 3 3A (in), 4 4A (in), 5 1B (in), 6 2B (in), 7 3B (in), 8 DA (out), 8 4B (in), 9 DB (out)
text: Дифф.; мультиплексор; 4:1

## DL4448
designator D?
Fast diode; Vendor: Shenzhen Luguang Electronic Technology; Voltage: 100; SMD Solders: 2; Solder Option: RM; Pkg: MiniMelf (DL35); Name to order: SF18; Current: 150; Price: 10; Device: DL4448
footprint DIOMELF3515N (SOD80C, MELF Diode, 2-Leads, Body 3.5x1.5mm, IPC Medium Density)
pins: 1 C, 2 A

## DSC1004
designator OSC?, comment DSC1001/3/44.9152MHz
Генератор кварцевый; Vendor: Microchip; Pkg: 7x5mm; SMD Solders: 2; Solder Option: RM; THD Solders: 0; Name to order: DSC1004AI2-004.9152; Value: 4.9152MHz; Price: 400; Device: DSC1001/3/4; Current: 0
footprint OSC_JAUCH_VX3 (SMD Oscillator, Side Convave, 4 pins, 5.00x7.00mm, VX3 Serie)
pins: 1 ~{D}E (in) "Pull Up or left open to work. GND-Out to HiZ", 2 GND (power), 3 OUT (out), 4 VDC (power)

## EEPROM
designator U?  (value not drawn)
Serial EEPROM
pins: 4 I2C (in)

## FQP6N90C
designator Q?
NMOS; Vendor: On Semiconductor; Pkg: TO220; SMD Solders: 0; Solder Option: RM; THD Solders: 3; Voltage: 900V; Price: 250; Device: FQP6N90C; Name to order: FQP6N90C
footprint TO-220-v (TO-220 3-Terminal - Vertical Mount)
pins: 1 G, 2 D, 3 S

## G6J-2P-Y 12VDC
designator K?, comment G6J-2P-Y12VDC
Электромагнитное реле; Vendor: Omron; Voltage: 110V; SMD Solders: 0; Solder Option: RM; Pkg: 11x6mm; THD Solders: 8; Current: 9mA; Value: 12VDC; Price: 200; Device: G6J-2P-Y; Name to order: G6J-2P-Y 12VDC
footprint REL_OMRON_G6J-2P-Y (THT Relay, Body 10.9mm x 6mm, OMRON_G6J-2P)
part A pins: 1, 8
part B pins: 2 NC (io), 3 C (io), 4 NO (io)
part C pins: 5 NO (io), 6 C (io), 7 NC (io)
part A text: +

## H401CHGYAD
designator D?
Чип светодиод 0603; Vendor: BIVAR; Value: HGYAD; SMD Solders: 0; Solder Option: RM; Pkg: SMD0603; Device: H401C; THD Solders: 8; Price: 700; Name to order: H401CHGYAD
footprint H401CHGYAD_LED_CB (Quad-Level 4x3mm Bi-Color Red/Green, LED CBI Circuit Board Indicator)
part A pins: 1 C1, 8 A1
part B pins: 2 C2, 7 A2
part C pins: 3 C3, 6 A3
part D pins: 4 C4, 5 A4

## H5007NL
designator T?
Ethernet transformer IEEE 802.3; Vendor: Yageo; Pkg: SO24-1.27; SMD Solders: 24; Solder Option: RM; THD Solders: 0; Price: 400; Device: H5007NL; Name to order: H5007NL; Current: 0
footprint XFMR_PULSE_H5007NL (10/100BASE-T Magnetics Modules, Body 12.2 x 17.53mm)
pins: 1 TCT (io), 2 TD+ (io), 3 TD- (io), 4 TCT (io), 5 TD+ (io), 6 TD- (io), 7 TCT (io), 8 TD+ (io), 9 TD- (io), 10 TCT (io), 11 TD+ (io), 12 TD- (io), 13 MX- (io), 14 MX+ (io), 15 MCT (io), 16 MX- (io), 17 MX+ (io), 18 MCT (io), 19 MX- (io), 20 MX+ (io), 21 MCT (io), 22 MX- (io), 23 MX+ (io), 24 MCT (io)
text: CHANNEL 1; CHANNEL 2; CHANNEL 3; CHANNEL 4

## HE244T
designator U?
HE244 Series Analog Hall Sensor; Vendor: Advanced Sensor Tech.; Value: 2mA; Pkg: НЕ244T; SMD Solders: 0; Solder Option: RM; THD Solders: 4; Price: 20000; Device: HE244T
footprint HE244T (he244t)
footprint HE244T_Left (he244t)
footprint HE244T_Right (he244t)
footprint HE244T_LeftV1 (he244t)
footprint HE244T_RightV1 (he244t)
pins: 1 -IN (io), 2 +IN (io), 3 OUT1 (io), 4 OUT2 (io)
text: Датчик; Холла

## HE244T_Bi
designator U?, comment HE244
HE244 Series Analog Hall Sensor; Vendor: Advanced Sensor Tech.; Value: 2mA; Pkg: НЕ244T; SMD Solders: 0; Solder Option: RM; THD Solders: 4; Price: 20000; Device: HE244
footprint HE244T (he244t)
footprint HE244T_Left (he244t)
footprint HE244T_Right (he244t)
footprint HE244T_LeftV1 (he244t)
footprint HE244T_RightV1 (he244t)
pins: 1 -IN (io), 2 i (io), 3 OUT1 (io), 4 OUT2 (io)
text: Датчик; Холла

## HRTS-5760-B-U-0-12
designator R?
Pt1000 Temperature Sensors; Vendor: HoneyWell; Value: 1000; Pkg: HRTS-5760-B-U-0-12; SMD Solders: 0; Solder Option: RM; THD Solders: 2; Price: 16000; Device: HRTS-5760-B-U-0-12; Name to order: HRTS-5760-B-U-0-12
footprint HRTS-5760-B-U-0-12 (he244t)
footprint HRTS-5760-B-U-0-12mini (Pt1000qwadratisch)
pins: 1, 2
text: t

## IDC14MS
designator J?
Вилка  14конт., шаг: 2.54мм; Vendor: Connfly; SMD Solders: 0; Solder Option: RM; THD Solders: 14; Name to order: BH-14, DS1013-14S, IDC-14MS; Price: 30; Device: IDC14MS
footprint 3M_2514-6002RB (14 Contacts - Straight .100" x .100" Low Profile Four-Wall Header)
pins: 1 (io), 2 (io), 3 (io), 4 (io), 5 (io), 6 (io), 7 (io), 8 (io), 9 (io), 10 (io), 11 (io), 12 (io), 13 (io), 14 (io)

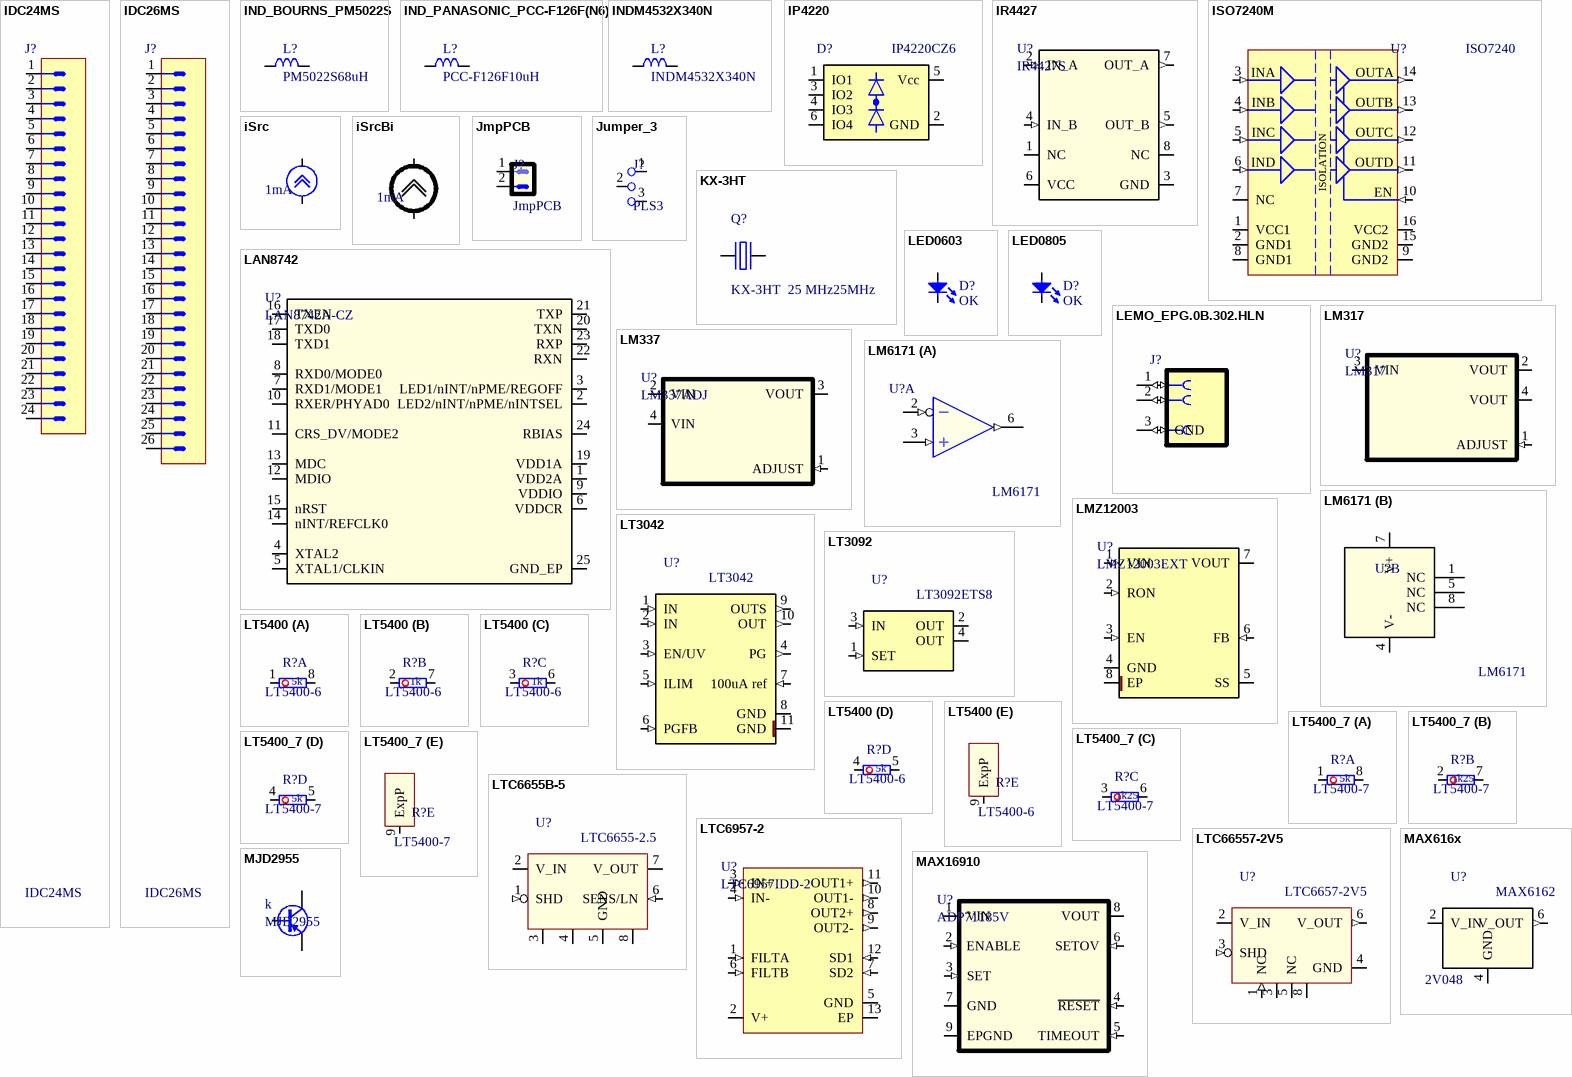
[diagram p3: symbols IDC24MS to MJD2955]

## IDC24MS
designator J?
Вилка   24конт., шаг: 2.54мм; Vendor: Connfly; SMD Solders: 0; Solder Option: RM; THD Solders: 24; Name to order: BH-24, DS1013-24S, IDC-24MS; Price: 30; Device: IDC24MS
footprint IDC24M (3M, 3000 Series, 24 Contacts - Pitch 2.54mm - Straight Four-Wall Header (Black) With Short Roll Pin Latch/Ejectors)
pins: 1 (io), 2 (io), 3 (io), 4 (io), 5 (io), 6 (io), 7 (io), 8 (io), 9 (io), 10 (io), 11 (io), 12 (io), 13 (io), 14 (io), 15 (io), 16 (io), 17 (io), 18 (io), 19 (io), 20 (io), 21 (io), 22 (io), 23 (io), 24 (io)

## IDC26MS
designator J?
Вилка  26 конт., шаг: 2.54; Vendor: Connfly; SMD Solders: 0; Solder Option: RM; THD Solders: 26; Name to order: BH-26, DS1013-26S, IDC-26MS; Price: 30; Device: IDC26MS
footprint IDC26M (3M, 3000 Series, 26 Contacts - Pitch 2.54mm - Straight Four-Wall Header (Black) With Long Roll Pin Latch/Ejectors)
pins: 1 (io), 2 (io), 3 (io), 4 (io), 5 (io), 6 (io), 7 (io), 8 (io), 9 (io), 10 (io), 11 (io), 12 (io), 13 (io), 14 (io), 15 (io), 16 (io), 17 (io), 18 (io), 19 (io), 20 (io), 21 (io), 22 (io), 23 (io), 24 (io), 25 (io), 26 (io)

## IND_BOURNS_PM5022S
designator L?, comment PM5022S68uH
SMD Дроссель; Vendor: Panasonic; Value: 68uH; Voltage: 2; Solder Option: RM; Tolerance: 20%; Pkg: SMD13x13mm; THD Solders: 0; Name to order: PM5022s-680M-RM; Current: 1A6; Price: 400; SMD Solders: 2; Device: PM5022S
footprint IND_Bourns_PM5022S (SMD Power Choke, Body Width 15mm Body Lenght 15mm Height 7.8mm, WURTH WE-PD 4 Serie Type XL)
pins: 1, 2

## IND_PANASONIC_PCC-F126F(N6)
designator L?, comment PCC-F126F10uH
SMD Дроссель; Vendor: Panasonic; Value: 10uH; Voltage: 2; Solder Option: RM; Tolerance: 20%; Pkg: SMD13x13mm; THD Solders: 0; Price: 500; SMD Solders: 2; Device: PCC-F126F
footprint INDM4532X340N (Inductor, Molded Body; 4.5mm L X 3.2mm W, IPC Medium Density)
pins: 1, 2

## INDM4532X340N
designator L?
SMD Дроссель; Vendor: Sumida; Voltage: 2; Solder Option: RM; Tolerance: 20%; THD Solders: 0; Price: 50; SMD Solders: 2; Device: INDM4532X340N
footprint INDM4532X340N (Inductor, Molded Body; 4.5mm L X 3.2mm W, IPC Medium Density)
pins: 1, 2

## IP4220
designator D?, comment IP4220CZ6
Optotransistor; Pkg: SOT23-6; SMD Solders: 6; Solder Option: RM; THD Solders: 0; Vendor: NXP; Voltage: 6V; Device: IP4220CZ6; Price: 10; Name to order: IP4220CZ6; Current: 0
footprint SOT95P270X145-6N (SOT, 0.95mm Pitch; 6 Pin,1.55mm W X 2.90mm L X 1.45mm H body, IPC Medium Density)
pins: 1 IO1, 2 GND, 3 IO2, 4 IO3, 5 Vcc, 6 IO4

## IR4427
designator U?, comment IR4427S
Double low side non inverting MOSFET driver; Vendor: International Rectifier; Pkg: SOIC8; SMD Solders: 8; Solder Option: RM; Device: IR4427; THD Solders: 0; Current: 200uA; PkgCode: S; Price: 260; Name to order: IR4427; thVoltage: -
footprint SOIC127P600X175-8N (SOIC 8, Pitch 1.27mm - Body 4x5mm, IPC Medium Density)
pins: 1 NC, 2 IN_A (in), 3 GND (power), 4 IN_B (in), 5 OUT_B (out), 6 VCC (power), 7 OUT_A (out), 8 NC

## ISO7240M
designator U?, comment ISO7240
Двунаправленный буфер; Pkg: SOIC16DW; SMD Solders: 16; Solder Option: RM; THD Solders: 0; Vendor: Texas Instruments; Voltage: 3V3 or 5V; Name to order: ISO7240MDWR; Current: 30; Device: ISO7240; Price: 3500
footprint SOIC127P1030X265-16N (SOIC 16, Pitch 1.27mm - Body 7.5x10.3mm, IPC Medium Density)
pins: 1 VCC1 (power), 2 GND1 (power), 3 INA (in), 4 INB (in), 5 INC (in), 6 IND (in), 7 NC, 8 GND1 (power), 9 GND2 (power), 10 EN (in), 11 OUTD (out), 12 OUTC (out), 13 OUTB (out), 14 OUTA (out), 15 GND2 (power), 16 VCC2 (power)
text: ISOLATION

## iSrc
designator G?, comment 1mA
Источник тока; Vendor: Inchange; Pkg: TO247; SMD Solders: 0; Solder Option: RM; Device: 2SK1358; THD Solders: 3; Voltage: 900V; Price: 500; Name to order: 2SK1358; Value: 1mA
footprint CAPC1206
pins: 1 minus, 2 plus

## iSrcBi
designator G?, comment 1mA
Источник тока; Vendor: Inchange; Pkg: TO247; SMD Solders: 0; Solder Option: RM; Device: 2SK1358; THD Solders: 3; Voltage: 900V; Price: 500; Name to order: 2SK1358; Value: 1mA
footprint CAPC1206
pins: 1 minus, 2 plus

## JmpPCB
designator J?
PLS2; SMD Solders: 1; Solder Option: i; THD Solders: 0; Price: 1; Vendor: -; Device: JmpPCB
footprint PCBJumper
pins: 1 (io), 2 (io)

## Jumper_3
designator J?, comment PLS3
SPDT джампер; Vendor: Confly; SMD Solders: 0; Solder Option: RM; THD Solders: 3; Price: 1; Pkg: PLS3; Device: PLS3
footprint PLS3 (3 Contacts - Pitch 2.54mm - Single Row Through Mount Straight Header (Post Lead = 6.35mm, Tail Lead 3.05mm, Insulator 1.52mm))
pins: 1, 2, 3
2 alternate drawings of the same symbol

## KX-3HT
designator Q?, comment KX-3HT  25 MHz25MHz
Резонатор кварцевый; Vendor: Geyer; Value: 25MHz; SMD Solders: 0; Solder Option: RM; TC: 1ppm/C; Tolerance: 30ppm; Price: 50; Device: KX-3HT  25 MHz
footprint HC49_S (HC-49/U-S Leaded Cristal, Body 11.5x4.66mm; Pitch 4.88mm)
pins: 1 OSC1, 2 OSC2

## LAN8742
designator U?, comment LAN8742A-CZ
Supervisory Circuit. Low-Quiescent-Current, Programmable-Delay; Vendor: MicroChip; Pkg: VQFN25-0.50; SMD Solders: 25; Solder Option: i; THD Solders: 0; Current: 6uA; Price: 700; Device: LAN8742A-CZ; Name to order: LAN8742A-CZ
footprint QFN24_0R5_4X4 (SQFN 24 Pins, Pitch 0.5mm, 4mmx4mm)
pins: 1 VDD2A, 2 LED2/nINT/nPME/nINTSEL, 3 LED1/nINT/nPME/REGOFF, 4 XTAL2, 5 XTAL1/CLKIN, 6 VDDCR, 7 RXD1/MODE1, 8 RXD0/MODE0, 9 VDDIO, 10 RXER/PHYAD0, 11 CRS_DV/MODE2, 12 MDIO, 13 MDC, 14 nINT/REFCLK0, 15 nRST, 16 TXEN, 17 TXD0, 18 TXD1, 19 VDD1A, 20 TXN, 21 TXP, 22 RXN, 23 RXP, 24 RBIAS, 25 GND_EP

## LED0603
designator D?, comment OK
Чип светодиод 0603; Vendor: KB; SMD Solders: 2; Solder Option: RM; Pkg: SMD0603; Device: LED0603; Price: 10; Value: OK
footprint LEDC1608X80N_RED (Chip RED LED, 2-Leads, Body 1.6x0.8mm, IPC Medium Density)
pins: 1 C, 2 A

## LED0805
designator D?, comment OK
Чип светодиод 0805; Vendor: KB; SMD Solders: 2; Solder Option: RM; Pkg: SMD0805; Device: LED0805; THD Solders: 0; Price: 10; Value: OK
footprint LED_OSRAM_LGR971 (Green Chip LED, 2-Leads, Body 2.0x1.25mm, IPC Medium Density)
footprint LED_OSRAM_LOR976 (Orange Chip LED, 2-Leads, Body 2.0x1.25mm, IPC Medium Density)
footprint LED_OSRAM_LYR976 (Yellow Chip LED, 2-Leads, Body 2.0x1.25mm, IPC Medium Density)
pins: 1 C, 2 A

## LEMO_EPG.0B.302.HLN
designator J?
LEMO дифференциальный, угловой; SMD Solders: 0; Solder Option: RM; THD Solders: 6; Price: 5000; Vendor: LEMO; Pkg: LEMO_EPG.0B.302.HLN; Device: LEMO_EPG.0B.302.HLN; Name to order: LEMO_EPG.0B.302.HLN
footprint LEMO_EPG.0B.302.HLN (Elbow Receptacle (90°) With 2 Female Contacts and Key (G) For PCB)
pins: 1 (io), 2 (io), 3 GND (io)

## LM317
designator U?
Positive LDO Linear stabilizer; Vendor: Texas Instruments; Value: ADJ; Pkg: SOT223; SMD Solders: 4; Solder Option: RM; THD Solders: 0; Name to order: LM317DCYR; Price: 100; Device: LM317
footprint SOT223 (SOT223, 2.30mm pitch; 3 pin, 3.70mm W X 6.70mm L, IPC Medium Density)
pins: 1 ADJUST (in), 2 VOUT (power) "Vout", 3 VIN (power) "Vin 2.1,,16V", 4 VOUT (power) "Vout Radiator"

## LM337
designator U?, comment LM337ADJ
Negative LDO Linear stabilizer; Vendor: Texas Instruments; Value: ADJ; Pkg: SOT223; SMD Solders: 4; Solder Option: RM; Device: LM337; THD Solders: 0; Name to order: LM337IMP ***; Price: 100
pins: 1 ADJUST (in), 2 VIN (power) "Vin 2.1,,16V", 3 VOUT (power) "Vout", 4 VIN (power) "Vout"

## LM6171
designator U?
High Speed Low Power Low Distortion Voltage Feedback Amplifier; Vendor: Texas Instruments; SMD Solders: 0; Solder Option: RM; TC: Offset 6uV/C; Pkg: DIP8; Device: LM6171
footprint DIP8-300 (DIP 8 Leads, Row Spacing 7.62 mm; Pitch 2.54 mm)
part A pins: 2 IN- (in), 3 IN+ (in), 6 OUT (out)
part B pins: 1 NC, 4 V- (power), 5 NC, 7 V+ (power), 8 NC

## LMZ12003
designator U?, comment LMZ12003EXT
DC-DC Power Module; Vendor: Texas Instruments; Pkg: NDW 7; SMD Solders: 8; Solder Option: EXT; THD Solders: 0; Price: 11000; Device: LMZ12003; Name to order: LMZ12003EXT; thVoltage: -; PkgCode: EXT
footprint NATIONAL_TO-PMOD-7 (TZA07A) (TO-PMOD 7 Pin Package, NATIONAL Package TZA07A, 1.70mm pitch; 9.85mm L X 10.16mm W X 4.67mm H body)
pins: 1 VIN (in), 2 RON (in), 3 EN (in), 4 GND (power), 5 SS, 6 FB (in), 7 VOUT (power), 8 EP (power)

## LT3042
designator U?
Current source v 100uA ref; Name to order: LT3042EMSE; Pkg: MSOP10 PowPad; SMD Solders: 11; Solder Option: DiY; TC: 10ppm/C; THD Solders: 0; Tolerance: 1%; Vendor: Analog Devices Inc; Voltage: max 20V; Current: 200ma; Price: 1200; Device: LT3042
footprint SOP50P490X110-11N-R157X188 (SOP, 0.50mm, pitch; 10 pin, 3.00mm W X 3.00mm L X 1.10mm H body (w/thermal tab  1.57 X 1.88 mm), IPC Medium Density)
pins: 1 IN (in), 2 IN (in), 3 EN/UV (in), 4 PG (out), 5 ILIM (in), 6 PGFB (in), 7 100uA ref (in), 8 GND (power), 9 OUTS (out), 10 OUT (out), 11 GND (power)

## LT3092
designator U?, comment LT3092ETS8
Current source; Name to order: LT3092ETS8, LT3092ITS8; Pkg: SOT223; SMD Solders: 4; Solder Option: RM; TC: 10ppm/C; Tolerance: 1%; Vendor: Analog Devices Inc; Voltage: max 40V; Current: 10uA; Price: 1700; Device: LT3092ETS8
footprint SOT223 (SOT223, 2.30mm pitch; 3 pin, 3.70mm W X 6.70mm L, IPC Medium Density)
pins: 1 SET (in), 2 OUT (power), 3 IN (in), 4 OUT (power)

## LT5400
designator R?, comment LT5400-6
4 прецизионных резистора; Vendor: Analog Devices; SMD Solders: 0; Solder Option: i; TC: 200ppb/C; Tolerance: 0..025%; Pkg: MSOP 9-0.65; Pwr: 40C/W; Device: LT5400; Name to order: LT5400BMPMS8E-6#PBF; Value: -6; Price: 2; THD Solders: 0
footprint SOP65P488X110-9N-R178X241 (SOP, 8-Leads, Body 3x3mm (max), Pitch 0.65mm, (w/thermal tab 2 .41 X 1.78 mm), IPC Medium Density)
part A pins: 1, 8
part B pins: 2, 7
part C pins: 3, 6
part D pins: 4, 5
part E pins: 9 ExpP
part A text: 5k
part B text: 1k
part C text: 1k
part D text: 5k

## LT5400_7
designator R?, comment LT5400-7
4 прецизионных резистора; Vendor: Analog Devices; SMD Solders: 0; Solder Option: i; TC: 200ppb/C; Tolerance: 0..025%; Pkg: MSOP 9-0.65; Pwr: 40C/W; Device: LT5400; Name to order: LT5400BMPMS8E-7#PBF; Value: -7; Price: 2; THD Solders: 0
footprint SOP65P488X110-9N-R178X241 (SOP, 8-Leads, Body 3x3mm (max), Pitch 0.65mm, (w/thermal tab 2 .41 X 1.78 mm), IPC Medium Density)
part A pins: 1, 8
part B pins: 2, 7
part C pins: 3, 6
part D pins: 4, 5
part E pins: 9 ExpP
part A text: 5k
part B text: 1k25
part C text: 1k25
part D text: 5k

## LTC6655B-5
designator U?, comment LTC6655-2.5
Low noise precision reference,; Name to order: LTC6655LNBHMS8-2.5; Pkg: MSOP65-8; SMD Solders: 8; Solder Option: RM; TC: 2ppm/C; Value: -2.5; Vendor: Analog Devices Inc; Voltage: max13.2V; Price: 6000; Device: LTC6655
footprint SOP65P488X110-8N (SOP, 8-Leads, Body 3x3mm (max), Pitch 0.65mm, IPC Medium Density)
pins: 1 SHD (in), 2 V_IN (power), 3 GND, 4 GND, 5 GND          , 6 SENS/LN (in), 7 V_OUT, 8 GND (power)

## LTC6957-2
designator U?, comment LTC6957IDD-2
Bufer CMOS in to 2xLVDS out; Vendor: Analog Devices; Pkg: DFN045-13; SMD Solders: 13; Solder Option: outSrc; THD Solders: 0; Current: 72; Voltage: 2.15.. 3.45; Price: 4200; Device: LTC6957IDD-2; Name to order: LTC6957IDD-2
footprint DFN13-045 (SON, 0.45mm Pitch; 12 Pin, 3.00mm W X 3.00mm L X 0.80mm H Body (w/Thermal tab 1.75 x 2.48mm), IPC Medium Density)
pins: 1 FILTA (in), 2 V+ (power), 3 IN+ (in), 4 IN- (in), 5 GND (power), 6 FILTB (in), 7 SD2 (in), 8 OUT2+ (out), 9 OUT2- (out), 10 OUT1- (out), 11 OUT1+ (out), 12 SD1 (in), 13 EP (power)

## LTC66557-2V5
designator U?, comment LTC6657-2V5
Reference, 2V5; Name to order: LT6657AHMS8-2.5; Pkg: MSOP8-065; SMD Solders: 8; Solder Option: RM; TC: 2ppm/C; Vendor: Analog Devices Inc; Voltage: max13.2V; Device: LT6657AHMS8; Price: 6000; Value: 2V5
footprint MSOP8-65 (SOP, 8-Leads, Body 3x3mm (max), Pitch 0.65mm, IPC Medium Density)
pins: 1 NC (in), 2 V_IN (power), 3 SHD (in), 3 NC, 4 GND, 5 NC, 6 V_OUT (out), 8 NC (power)

## MAX616x
designator U?, comment MAX6162  Vout: 2V048
Voltage Reference; Name to order: MAX6162A; Pkg: SOIC8; SMD Solders: 8; Solder Option: RM; TC: 5ppm/C; Value: 2; Vendor: Analog Devices Inc; Voltage: Vout+0.2V.. max12.6V; Device: MAX616; Price: 6000
footprint SOIC127P600X175-8N (SOIC 8, Pitch 1.27mm - Body 4x5mm, IPC Medium Density)
pins: 2 V_IN (power), 4 GND, 6 V_OUT (out)

## MAX16910
designator U?, comment ADP71185V
Positive LDO Linear stabilizer Low consumption current  (30uA); Vendor: Analog Devices; Value: 5V; Pkg: SO8-EP; SMD Solders: 9; Solder Option: i; THD Solders: 0; Name to order: MAX16910CASAxxx; Price: 500; Device: ADP7118; Current: 30uA
footprint SOIC8_TP (SOIC8_1.27pitch + expPad)
pins: 1 VIN (power) "Vin 2.1,,16V", 2 ENABLE (in) "Enable  activ H", 3 SET (in) "Enable  activ H", 4 ~{RESET} (in), 5 TIMEOUT (in) "Enable  activ H", 6 SETOV (in) "Enable  activ H", 7 GND (power) "Groung", 8 VOUT (power) "Vout", 9 EPGND (power) "Groung"

## MJD2955
designator k
PNP транзистор; Vendor: ON Semiconductor; Pkg: DPAK; SMD Solders: 3; Solder Option: RM; Name to order: MJD29G55; Voltage: -60V; Price: 100; Device: MJD2955
footprint DPAK (TO-252AA DPAK TO, 2.28mm pitch; 2 pin,9.90mm L X 6.56mm W X 2.38mm H body, IPC Medium Density)
pins: 1 B, 2 E, 3 C

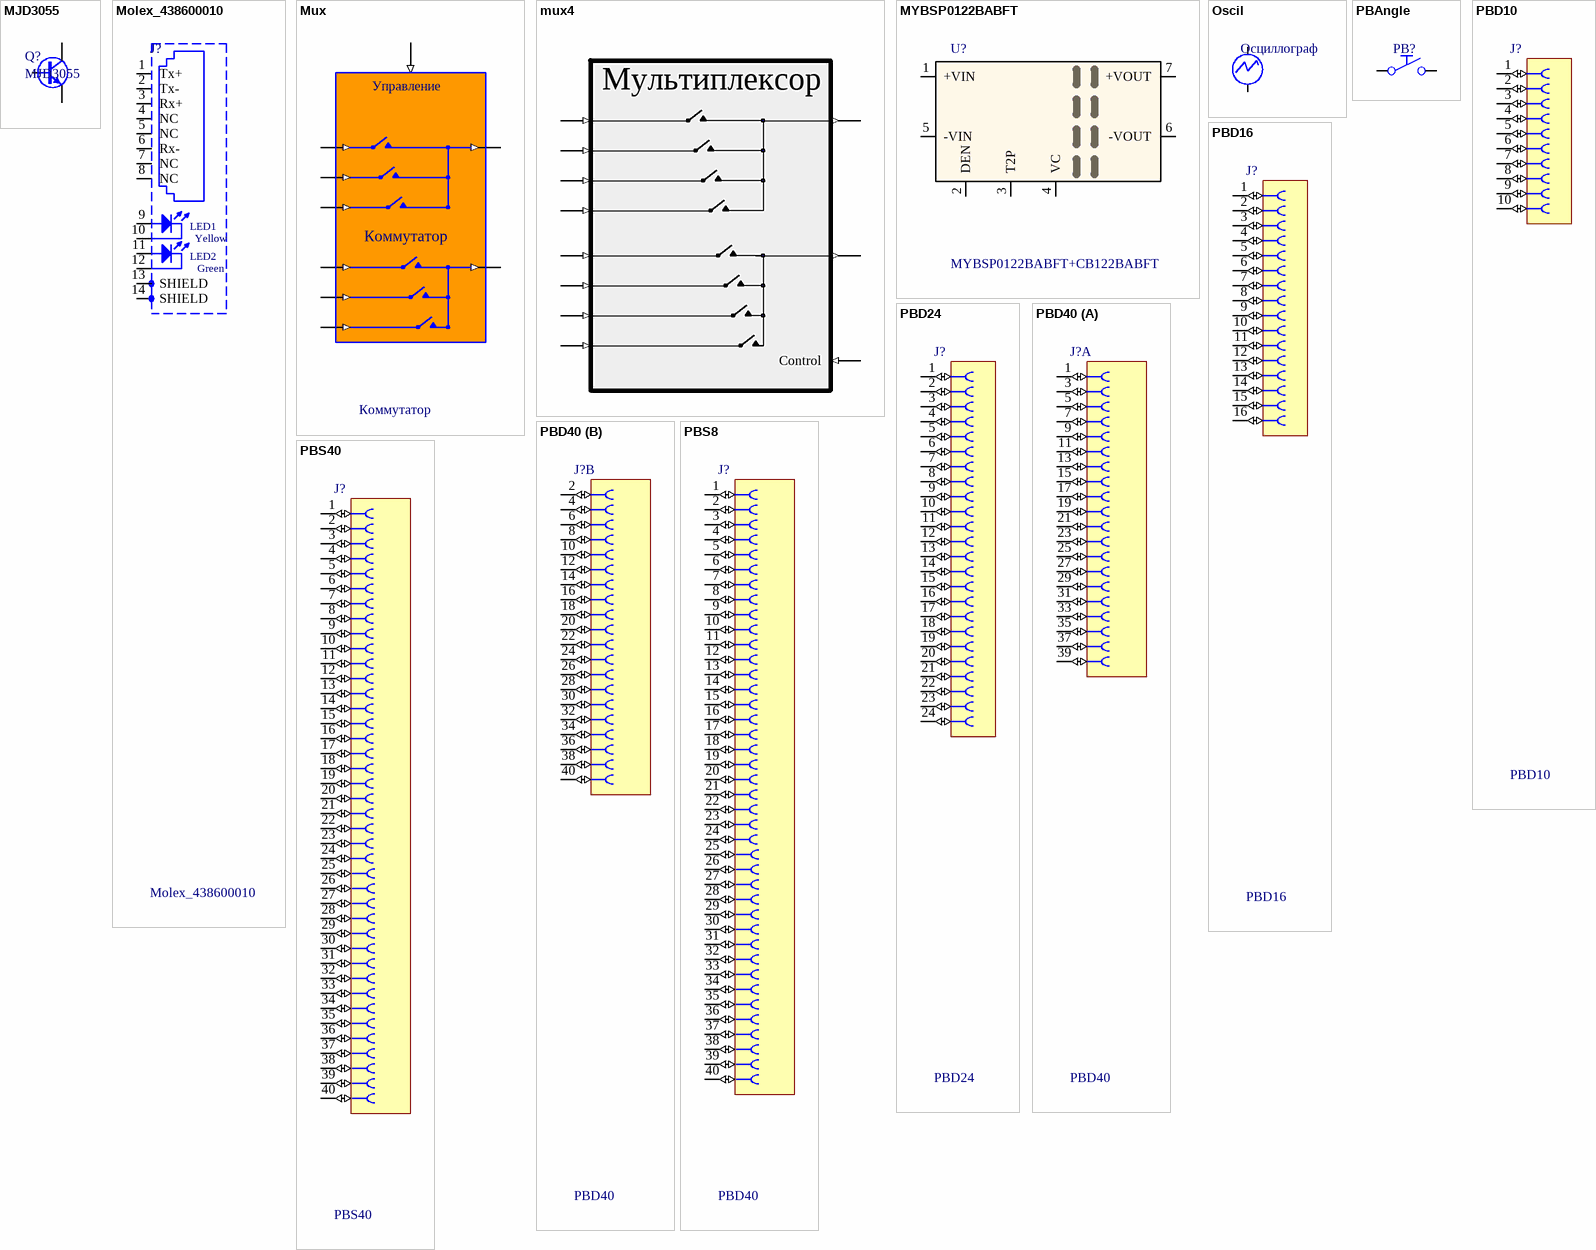
[diagram p4: symbols MJD3055 to PBS40]

## MJD3055
designator Q?
NPN транзистор; Vendor: ON Semiconductor; Pkg: DPAK; SMD Solders: 3; Solder Option: RM; Name to order: MJD3055G; Voltage: 60V; Price: 100; Device: MJD3055
footprint DPAK (TO-252AA DPAK TO, 2.28mm pitch; 2 pin,9.90mm L X 6.56mm W X 2.38mm H body, IPC Medium Density)
pins: 1 B, 2 E, 3 C

## Molex_438600010
designator J?
1 Port, 8 Positions, CAT5 RJ45 Modular Connector With Yellow And Green fibers for LEDs; Vendor: Molex; SMD Solders: 4; Solder Option: RM; THD Solders: 10; Price: 320; Pkg: Molex_438600010; Device: Molex_438600010; Name to order: 438600010
footprint Molex-43860-0010 (1 Port, 8 Positions, CAT5 RJ45 Modular Connector With Yellow And Green LEDs)
pins: 1 Tx+ (io), 2 Tx- (io), 3 Rx+ (io), 4 NC (io), 5 NC (io), 6 Rx- (io), 7 NC (io), 8 NC (io), 9 ALED1, 10 CLED1, 11 ALED2, 12 CLED2, 13 SHIELD, 14 SHIELD
text: LED1; Yellow; LED2; Green

## Mux
designator U?, comment Коммутатор
Low Capacitance, Dual 4-Channel, ±15 V/+12 V iCMOS Multiplexer
pins: 4 S1A (in), 5 S2A (in), 6 S3A (in), 8 DA (out), 9 DB (out), 11 S3B (in), 12 S2B (in), 12 S3B (in), 13 S1B (in)
text: Управление

## mux4
designator IC?
Low Capacitance, Dual 4-Channel, ±15 V/+12 V iCMOS Multiplexer
pins: 1 Control (in), 1 1A (in), 2 2A (in), 3 3A (in), 4 4A (in), 5 1B (in), 6 2B (in), 7 3B (in), 8 DA (out), 8 4B (in), 9 DB (out)
text: Мультиплексор

## MYBSP0122BABFT
designator U?, comment MYBSP0122BABFT+CB122BABFT
POE isolated DC-DC 24W; Vendor: Murata; SMD Solders: 7; Solder Option: RM; Pkg: 35x23mm; Voltage: +12V; THD Solders: 0; Name to order: MYBSP0; Value: 122BABFT; Price: 1000; Device: MYBSP0122BABFT+CB
footprint MURATA_MYBSP0122BABFT_0 - DUPLICATE
pins: 1 +VIN (power), 2 DEN, 3 T2P, 4 VC (power), 5 -VIN (power), 6 -VOUT (power), 7 +VOUT (power)

## Oscil
designator O?, comment Осциллограф
Vendor: Inchange; Pkg: TO247; SMD Solders: 0; Solder Option: RM; Device: 2SK1358; THD Solders: 3; Voltage: 900V; Value: Uo; Price: 500; Name to order: 2SK1358
footprint CAPC1206
pins: 1 minus, 2 plus

## PBAngle
designator PB?, comment 2-1825027-0  (value not drawn)
Push Button Angle NO; Vendor: TE Conn; SMD Solders: 0; Solder Option: RM; Pkg: 7x7mm; THD Solders: 4; Price: 1; Device: PushButt; Name to order: 2-1825027-0
footprint PB_ALPS_SKHHLQA010 (Body 6x6mm, Stem height 8.35mm, Horizontal Pushbutton Switch, ALPS Serie SKHH)
pins: 1 C (io), 2 NO (io)

## PBD10
designator J?
Розетка 2 ряда PBD 10/2.54; Vendor: Confly; SMD Solders: 0; Solder Option: RM; THD Solders: 10; Price: 20; Device: PBD10
footprint PBD10 (10 Contacts, Pitch 2.54mm - Top Entry, Dual Row, Through Mount Socket)
pins: 1 (io), 2 (io), 3 (io), 4 (io), 5 (io), 6 (io), 7 (io), 8 (io), 9 (io), 10 (io)

## PBD16
designator J?
Розетка 2 ряда PBD 16/2.54; Vendor: Confly; SMD Solders: 0; Solder Option: RM; THD Solders: 16; Price: 20; Device: PBD16
footprint SAMTEC_SSW-108-02-G-D (8 Contacts, Pitch 2.54mm - Top Entry, Dual Row, Through Mount Straigh Socket)
pins: 1 (io), 2 (io), 3 (io), 4 (io), 5 (io), 6 (io), 7 (io), 8 (io), 9 (io), 10 (io), 11 (io), 12 (io), 13 (io), 14 (io), 15 (io), 16 (io)

## PBD24
designator J?
Розетка  PBD 24/2.54; Vendor: Confly; SMD Solders: 0; Solder Option: RM; THD Solders: 24; Price: 20; Device: PBD24
footprint PBD24 (2.54mm (.100") Pitch, 24 Circuits  Dual Row  Top Entry Through Mount Receptacle)
pins: 1 (io), 2 (io), 3 (io), 4 (io), 5 (io), 6 (io), 7 (io), 8 (io), 9 (io), 10 (io), 11 (io), 12 (io), 13 (io), 14 (io), 15 (io), 16 (io), 17 (io), 18 (io), 19 (io), 20 (io), 21 (io), 22 (io), 23 (io), 24 (io)

## PBD40
designator J?
Розетка 2 ряд  PBS 40/2.54; Vendor: Confly; SMD Solders: 0; Solder Option: RM; THD Solders: 40; Price: 20; Pkg: PBD40; Device: PBD40
footprint PBD40_HARWIN_M20-6112045 - duplicate (40 Ways, Dual Row, 2.54mm Pitch, PC/104 Non-Stackthrough Connector)
part A pins: 1 (io), 3 (io), 5 (io), 7 (io), 9 (io), 11 (io), 13 (io), 15 (io), 17 (io), 19 (io), 21 (io), 23 (io), 25 (io), 27 (io), 29 (io), 31 (io), 33 (io), 35 (io), 37 (io), 39 (io)
part B pins: 2 (io), 4 (io), 6 (io), 8 (io), 10 (io), 12 (io), 14 (io), 16 (io), 18 (io), 20 (io), 22 (io), 24 (io), 26 (io), 28 (io), 30 (io), 32 (io), 34 (io), 36 (io), 38 (io), 40 (io)
1 alternate drawing of the same symbol

## PBS8
designator J?, comment PBD40
Розетка 2 ряд  PBS 40/2.54; Vendor: Confly; SMD Solders: 0; Solder Option: RM; THD Solders: 40; Price: 20; Pkg: PBD40; Device: PBD40
footprint PBD40_HARWIN_M20-6112045 - duplicate (40 Ways, Dual Row, 2.54mm Pitch, PC/104 Non-Stackthrough Connector)
pins: 1 (io), 2 (io), 3 (io), 4 (io), 5 (io), 6 (io), 7 (io), 8 (io), 9 (io), 10 (io), 11 (io), 12 (io), 13 (io), 14 (io), 15 (io), 16 (io), 17 (io), 18 (io), 19 (io), 20 (io), 21 (io), 22 (io), 23 (io), 24 (io), 25 (io), 26 (io), 27 (io), 28 (io), 29 (io), 30 (io), 31 (io), 32 (io), 33 (io), 34 (io), 35 (io), 36 (io), 37 (io), 38 (io), 39 (io), 40 (io)
1 alternate drawing of the same symbol

## PBS40
designator J?
Розетка 1 ряд  PBS 40/2.54; Vendor: Confly; SMD Solders: 0; Solder Option: RM; THD Solders: 40; Price: 20; Device: PBS40
footprint PBS40 (20 Positions, Pitch 2.54mm, Width 2.54mm, Heigh 4.4mm, SIP Straight Socket)
pins: 1 (io), 2 (io), 3 (io), 4 (io), 5 (io), 6 (io), 7 (io), 8 (io), 9 (io), 10 (io), 11 (io), 12 (io), 13 (io), 14 (io), 15 (io), 16 (io), 17 (io), 18 (io), 19 (io), 20 (io), 21 (io), 22 (io), 23 (io), 24 (io), 25 (io), 26 (io), 27 (io), 28 (io), 29 (io), 30 (io), 31 (io), 32 (io), 33 (io), 34 (io), 35 (io), 36 (io), 37 (io), 38 (io), 39 (io), 40 (io)

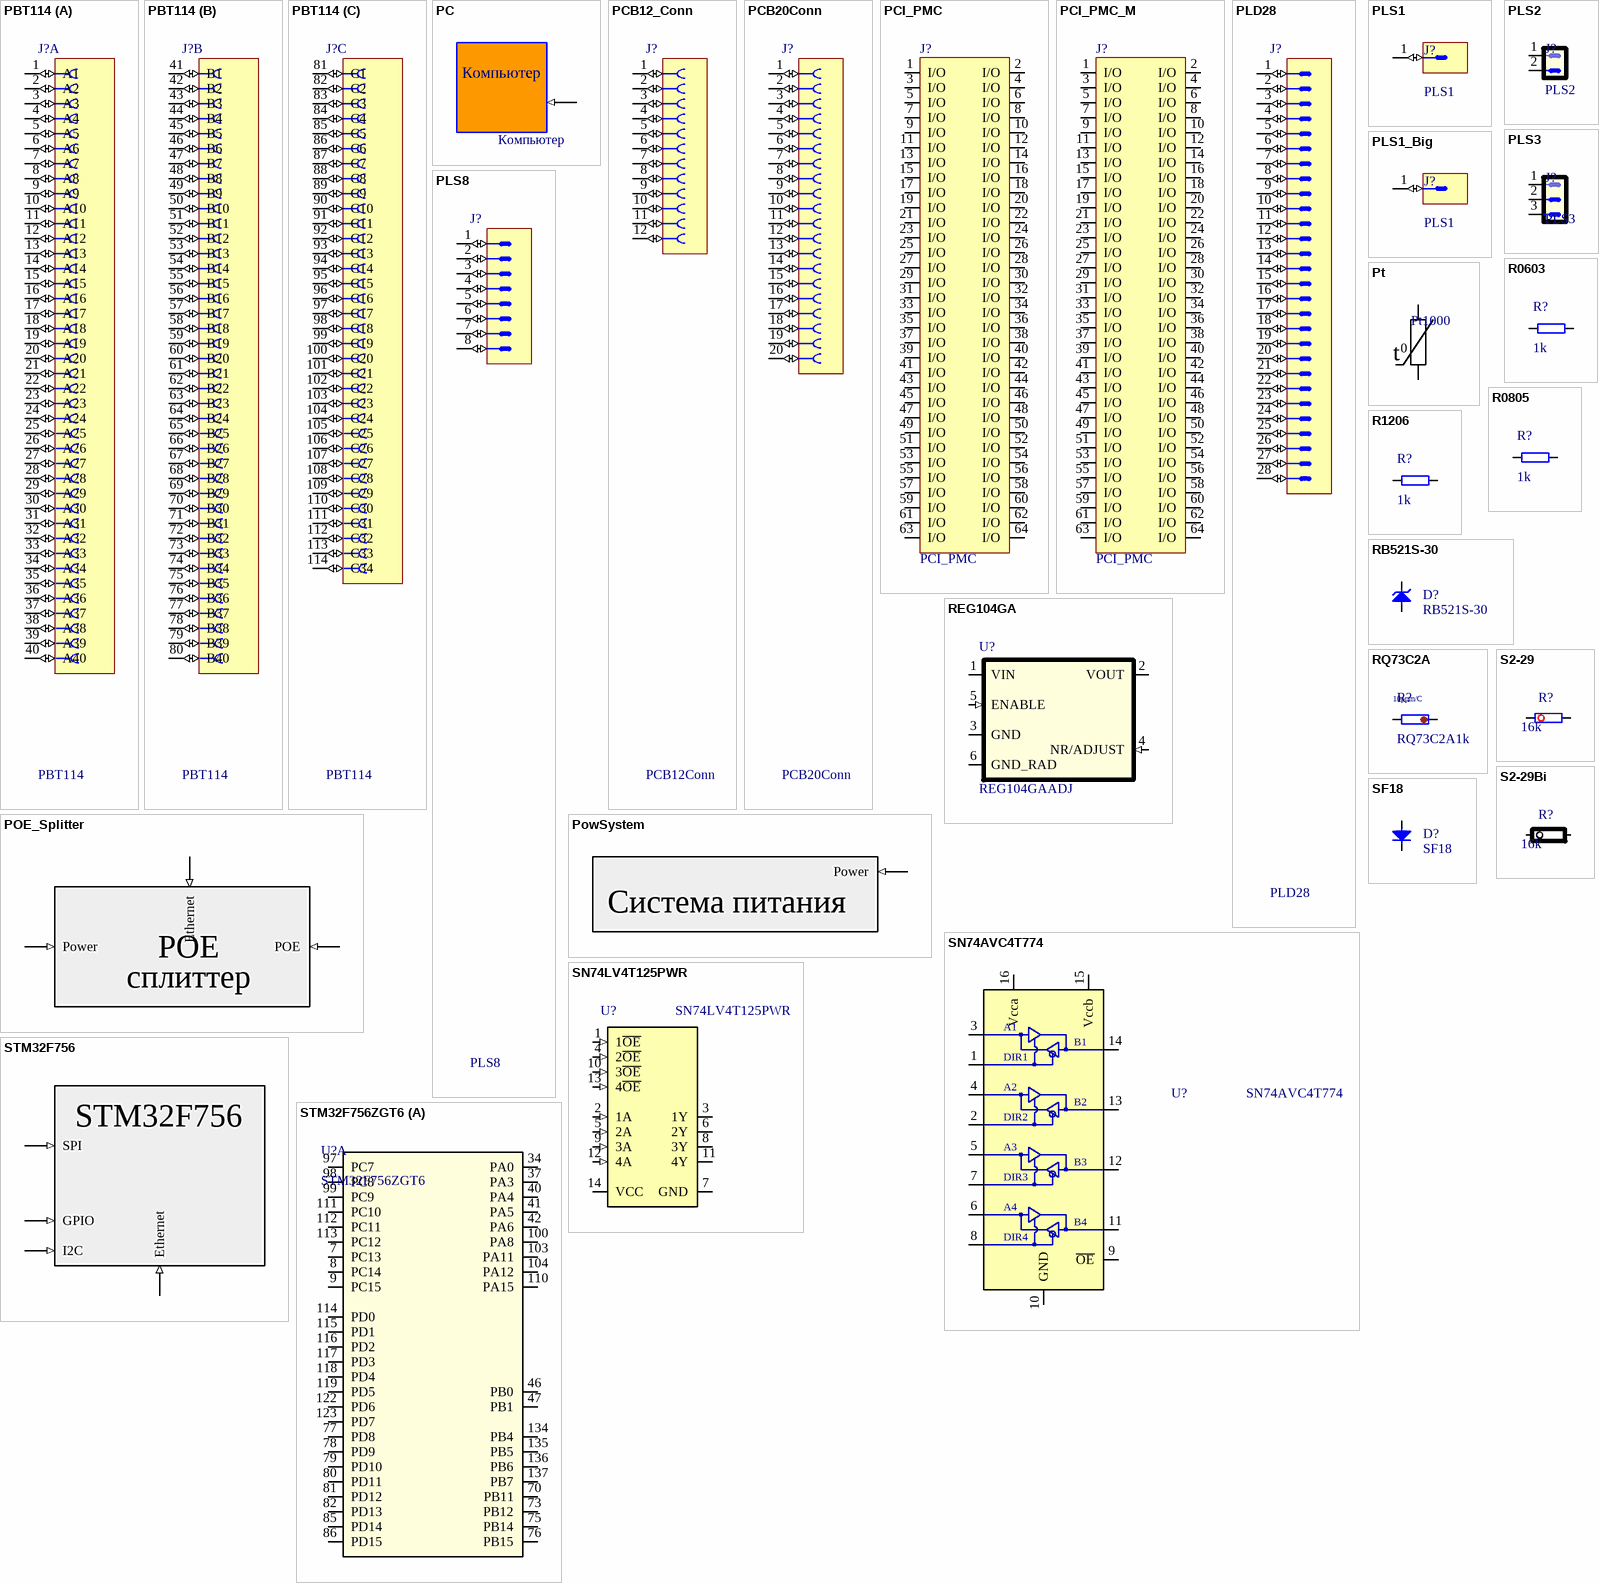
[diagram p5: symbols PBT114 to STM32F756ZGT6]

## PBT114
designator J?
Розетка 2.54мм 3ряда 114 ног; Vendor: Confly; SMD Solders: 0; Solder Option: RM; THD Solders: 114; Price: 50; Device: PBT114
footprint PBT114 (4 Positions, Pitch 2.54mm, Width 2.54mm, Heigh 4.4mm, SIP Straight Socket)
part A pins: 1 A1 (io), 2 A2 (io), 3 A3 (io), 4 A4 (io), 5 A5 (io), 6 A6 (io), 7 A7 (io), 8 A8 (io), 9 A9 (io), 10 A10 (io), 11 A11 (io), 12 A12 (io), 13 A13 (io), 14 A14 (io), 15 A15 (io), 16 A16 (io), 17 A17 (io), 18 A18 (io), 19 A19 (io), 20 A20 (io), 21 A21 (io), 22 A22 (io), 23 A23 (io), 24 A24 (io), 25 A25 (io), 26 A26 (io), 27 A27 (io), 28 A28 (io), 29 A29 (io), 30 A30 (io), 31 A31 (io), 32 A32 (io), 33 A33 (io), 34 A34 (io), 35 A35 (io), 36 A36 (io), 37 A37 (io), 38 A38 (io), 39 A39 (io), 40 A40 (io)
part B pins: 41 B1 (io), 42 B2 (io), 43 B3 (io), 44 B4 (io), 45 B5 (io), 46 B6 (io), 47 B7 (io), 48 B8 (io), 49 B9 (io), 50 B10 (io), 51 B11 (io), 52 B12 (io), 53 B13 (io), 54 B14 (io), 55 B15 (io), 56 B16 (io), 57 B17 (io), 58 B18 (io), 59 B19 (io), 60 B20 (io), 61 B21 (io), 62 B22 (io), 63 B23 (io), 64 B24 (io), 65 B25 (io), 66 B26 (io), 67 B27 (io), 68 B28 (io), 69 B29 (io), 70 B30 (io), 71 B31 (io), 72 B32 (io), 73 B33 (io), 74 B34 (io), 75 B35 (io), 76 B36 (io), 77 B37 (io), 78 B38 (io), 79 B39 (io), 80 B40 (io)
part C pins: 81 C1 (io), 82 C2 (io), 83 C3 (io), 84 C4 (io), 85 C5 (io), 86 C6 (io), 87 C7 (io), 88 C8 (io), 89 C9 (io), 90 C10 (io), 91 C11 (io), 92 C12 (io), 93 C13 (io), 94 C14 (io), 95 C15 (io), 96 C16 (io), 97 C17 (io), 98 C18 (io), 99 C19 (io), 100 C20 (io), 101 C21 (io), 102 C22 (io), 103 C23 (io), 104 C24 (io), 105 C25 (io), 106 C26 (io), 107 C27 (io), 108 C28 (io), 109 C29 (io), 110 C30 (io), 111 C31 (io), 112 C32 (io), 113 C33 (io), 114 C34 (io)

## PC
designator U?, comment Компьютер
Low Capacitance, Dual 4-Channel, ±15 V/+12 V iCMOS Multiplexer
pins: 1 S3B (in)

## PCB12_Conn
designator J?, comment PCB12Conn
PCB Connector 12 pins; Vendor: PSElectro; SMD Solders: 0; Solder Option: RM; THD Solders: 14; Price: 0; Pkg: PCB12Conn; Device: PCB12Conn
footprint PCB12Conn (3M, 3000 Series, 24 Contacts - Pitch 2.54mm - Straight Four-Wall Header (Black) With Short Roll Pin Latch/Ejectors)
pins: 1 (io), 2 (io), 3 (io), 4 (io), 5 (io), 6 (io), 7 (io), 8 (io), 9 (io), 10 (io), 11 (io), 12 (io)

## PCB20Conn
designator J?
PCB Connector 20 pins; Vendor: PSElectro; SMD Solders: 0; Solder Option: RM; THD Solders: 22; Price: 0; Pkg: PCB20Conn; Device: PCB20Conn
footprint PCB20Conn (3M, 3000 Series, 24 Contacts - Pitch 2.54mm - Straight Four-Wall Header (Black) With Short Roll Pin Latch/Ejectors)
pins: 1 (io), 2 (io), 3 (io), 4 (io), 5 (io), 6 (io), 7 (io), 8 (io), 9 (io), 10 (io), 11 (io), 12 (io), 13 (io), 14 (io), 15 (io), 16 (io), 17 (io), 18 (io), 19 (io), 20 (io)